# Altium integrated library altera.IntLib: 68 symbols (part 5 of 6)
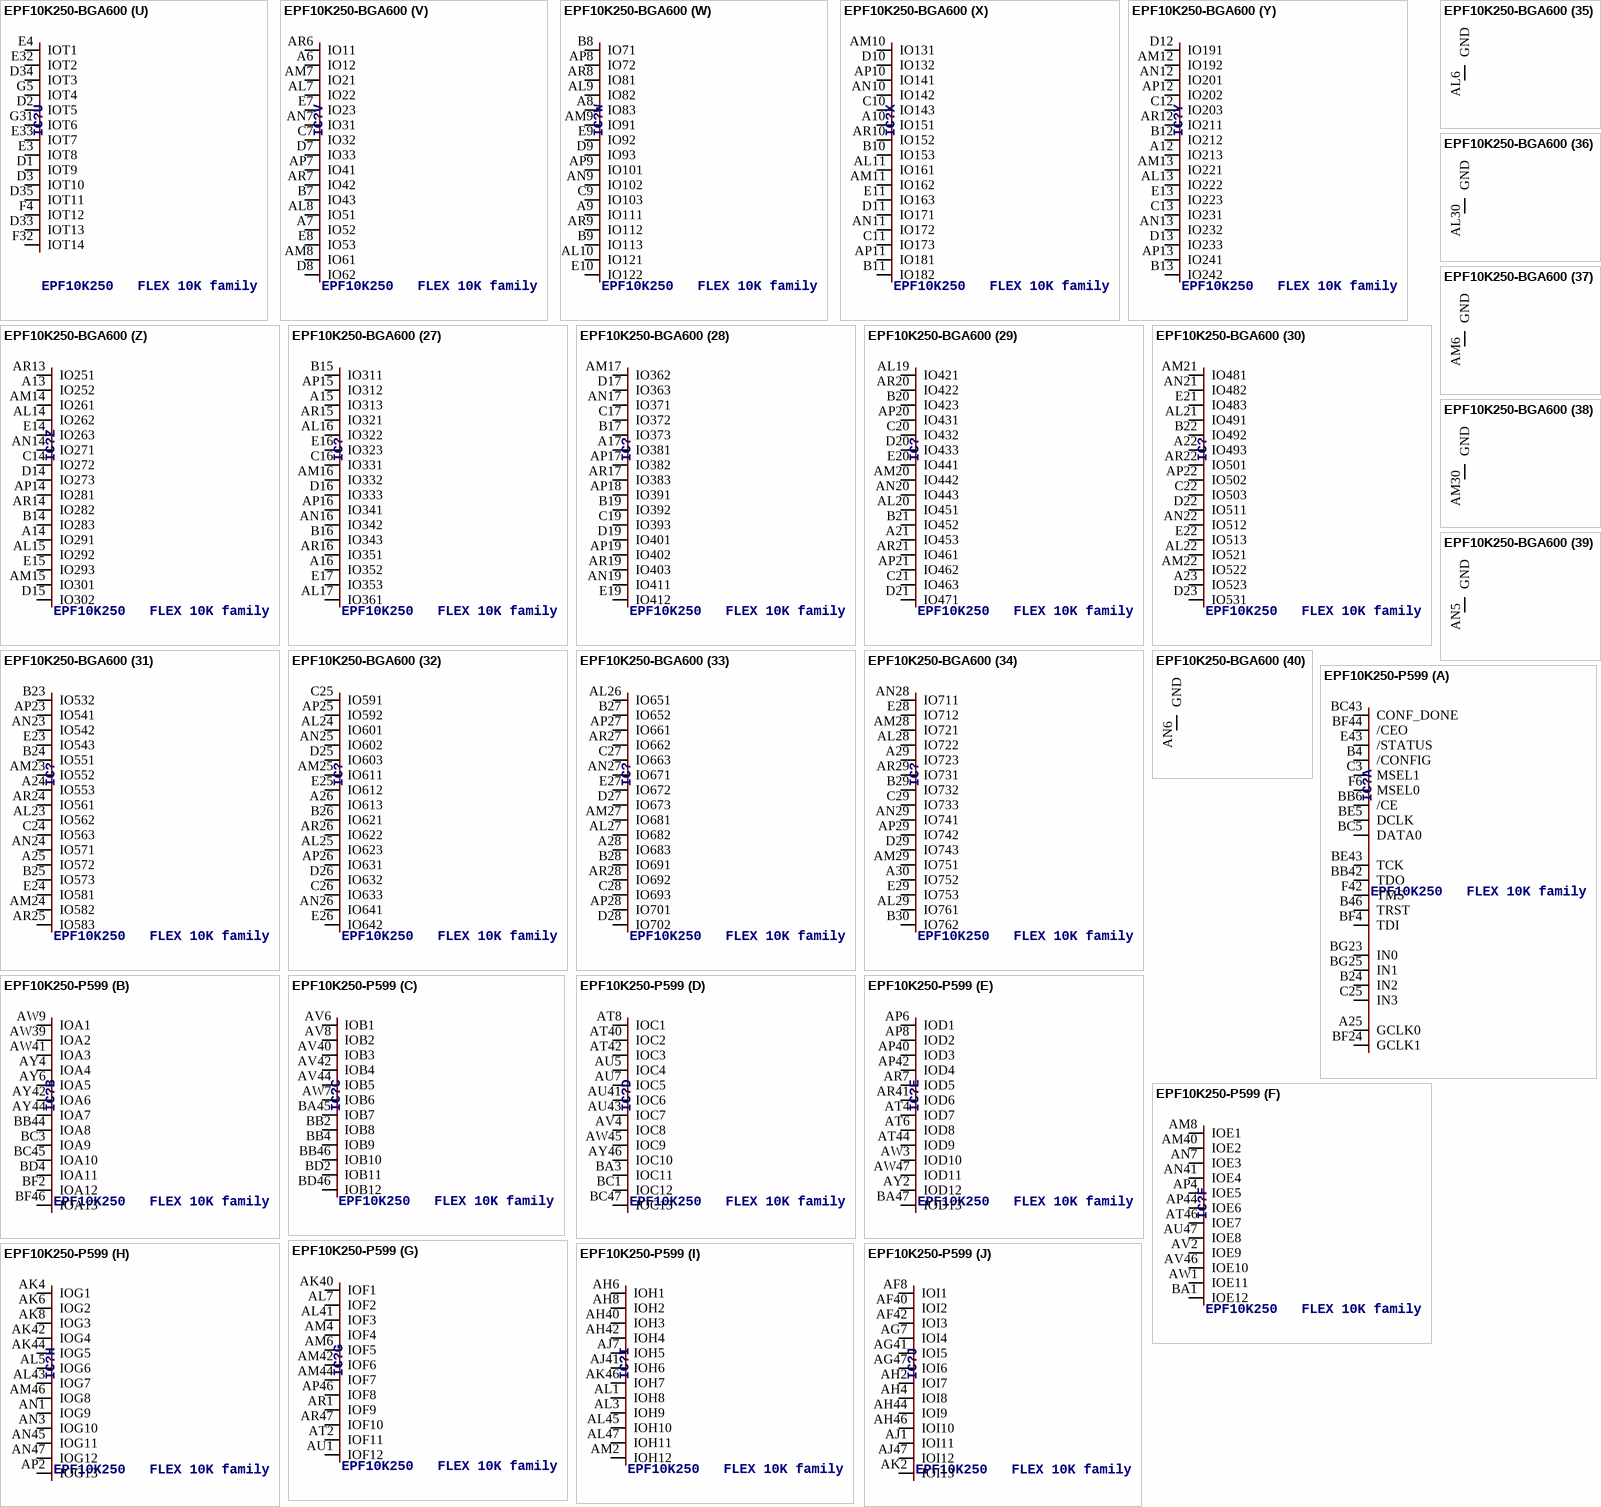
[diagram p61: symbols EPF10K250-BGA600 to EPF10K250-P599]

## EPF10K250-BGA600
designator IC?, comment EPF10K250   FLEX 10K family
OC_FARNELL: unknown; OC_NEWARK: unknown
footprint BGA600
part A pins: AL18 GCLK1, AL31 TCK, AM4 DATA0, AM18 IN1, AM32 CONF_DONE, AN1 TDI, AN2 /CE, AN18 IN0, AN34 TDO, AP1 DCLK, AP35 /CEO, C1 MSEL1, C18 IN2, C34 TRST, C35 TMS, D4 /CONFIG, D18 IN3, D32 /STATUS, E18 GCLK0, F5 MSEL0
part B pins: AJ5 IOA9, AJ31 IOA7, AK5 IOA1, AK32 IOA8, AL4 IOA11, AL32 IOA2, AL33 IOA3, AM1 IOA4, AM2 IOA12, AM3 IOA5, AM33 IOA13, AM34 IOA6, AM35 IOA10
part C pins: AH5 IOB8, AH31 IOB7, AJ4 IOB1, AJ32 IOB4, AK3 IOB11, AK4 IOB9, AK33 IOB10, AK34 IOB5, AL1 IOB2, AL2 IOB6, AL34 IOB12, AL35 IOB3
part D pins: AG31 IOC10, AH4 IOC12, AH32 IOC7, AH33 IOC3, AH34 IOC9, AJ1 IOC4, AJ2 IOC1, AJ3 IOC5, AJ33 IOC2, AJ34 IOC6, AJ35 IOC13, AK1 IOC11, AK2 IOC8
part E pins: AF5 IOD1, AF31 IOD4, AG2 IOD2, AG3 IOD5, AG4 IOD10, AG32 IOD3, AG33 IOD6, AG34 IOD13, AG35 IOD11, AH1 IOD7, AH2 IOD12, AH3 IOD8, AH35 IOD9
part F pins: AE5 IOE1, AE31 IOE8, AE32 IOE2, AE33 IOE7, AF1 IOE9, AF2 IOE3, AF3 IOE11, AF4 IOE5, AF33 IOE6, AF34 IOE10, AF35 IOE4, AG1 IOE12
part G pins: AD3 IOF2, AD4 IOF9, AD5 IOF4, AD31 IOF7, AD32 IOF8, AD33 IOF3, AD34 IOF1, AE1 IOF11, AE2 IOF5, AE3 IOF12, AE34 IOF6, AE35 IOF10
part H pins: AB31 IOG8, AC1 IOG9, AC2 IOG1, AC3 IOG10, AC4 IOG2, AC5 IOG3, AC31 IOG7, AC32 IOG11, AC33 IOG4, AC34 IOG12, AC35 IOG5, AD1 IOG6, AD2 IOG13
part I pins: AA4 IOH8, AA5 IOH1, AA31 IOH4, AA32 IOH7, AB1 IOH9, AB2 IOH2, AB3 IOH12, AB4 IOH5, AB32 IOH6, AB33 IOH10, AB34 IOH3, AB35 IOH11
part J pins: AA1 IOI8, AA2 IOI13, AA3 IOI4, AA34 IOI5, AA35 IOI12, Y3 IOI7, Y4 IOI1, Y5 IOI11, Y31 IOI9, Y32 IOI10, Y33 IOI2, Y34 IOI6, Y35 IOI3
part K pins: V5 IOJ2, V31 IOJ5, W1 IOJ1, W2 IOJ3, W3 IOJ8, W4 IOJ9, W5 IOJ13, W31 IOJ12, W32 IOJ11, W33 IOJ6, W34 IOJ4, W35 IOJ7, Y1 IOJ10
part L pins: U4 IOK3, U5 IOK1, U31 IOK5, U32 IOK7, U33 IOK4, V1 IOK2, V2 IOK8, V3 IOK9, V4 IOK12, V33 IOK11, V34 IOK10, V35 IOK6
part M pins: T2 IOL5, T3 IOL1, T4 IOL6, T5 IOL3, T31 IOL2, T32 IOL7, T33 IOL12, T34 IOL8, U1 IOL4, U2 IOL11, U34 IOL10, U35 IOL9
part N pins: P31 IOM12, P32 IOM3, R1 IOM11, R2 IOM5, R3 IOM10, R4 IOM7, R5 IOM1, R31 IOM8, R32 IOM2, R33 IOM6, R34 IOM13, R35 IOM4, T1 IOM9
part O pins: N3 ION7, N4 ION6, N5 ION2, N31 ION8, N32 ION9, N33 ION1, P1 ION10, P2 ION5, P3 ION12, P4 ION4, P33 ION13, P34 ION3, P35 ION11
part P pins: L35 IOO7, M1 IOO8, M3 IOO2, M4 IOO9, M5 IOO5, M31 IOO11, M32 IOO3, M33 IOO10, M34 IOO1, M35 IOO6, N1 IOO4, N2 IOO12, N35 IOO13
part Q pins: K1 IOP2, K2 IOP8, K33 IOP7, K34 IOP9, K35 IOP1, L1 IOP10, L2 IOP6, L3 IOP11, L4 IOP12, L5 IOP4, L31 IOP3, L32 IOP13, L33 IOP14, L34 IOP5
part R pins: H34 IOQ7, H35 IOQ1, J1 IOQ12, J2 IOQ2, J3 IOQ8, J4 IOQ3, J32 IOQ9, J33 IOQ4, J34 IOQ13, J35 IOQ14, K3 IOQ6, K4 IOQ10, K5 IOQ11, K31 IOQ5
part S pins: G1 IOR5, G2 IOR10, G33 IOR6, G34 IOR4, G35 IOR7, H2 IOR8, H3 IOR3, H4 IOR1, H32 IOR11, H33 IOR2, J5 IOR9, J31 IOR12
part T pins: E1 IOS9, E34 IOS10, E35 IOS2, F1 IOS6, F2 IOS7, F3 IOS1, F33 IOS11, F34 IOS5, G3 IOS13, G4 IOS8, G32 IOS3, H5 IOS4, H31 IOS12
part U pins: D1 IOT9, D2 IOT5, D3 IOT10, D33 IOT13, D34 IOT3, D35 IOT11, E3 IOT8, E4 IOT1, E32 IOT2, E33 IOT7, F4 IOT12, F32 IOT14, G5 IOT4, G31 IOT6
part V pins: A6 IO12, A7 IO52, AL7 IO22, AL8 IO51, AM7 IO21, AM8 IO61, AN7 IO31, AP7 IO41, AR6 IO11, AR7 IO42, B7 IO43, C7 IO32, D7 IO33, D8 IO62, E7 IO23, E8 IO53
part W pins: A8 IO83, A9 IO111, AL9 IO82, AL10 IO121, AM9 IO91, AN9 IO102, AP8 IO72, AP9 IO101, AR8 IO81, AR9 IO112, B8 IO71, B9 IO113, C9 IO103, D9 IO93, E9 IO92, E10 IO122
part X pins: A10 IO151, AL11 IO161, AM10 IO131, AM11 IO162, AN10 IO142, AN11 IO172, AP10 IO141, AP11 IO181, AR10 IO152, B10 IO153, B11 IO182, C10 IO143, C11 IO173, D10 IO132, D11 IO171, E11 IO163
part Y pins: A12 IO213, AL13 IO222, AM12 IO192, AM13 IO221, AN12 IO201, AN13 IO232, AP12 IO202, AP13 IO241, AR12 IO211, B12 IO212, B13 IO242, C12 IO203, C13 IO231, D12 IO191, D13 IO233, E13 IO223
part Z pins: A13 IO252, A14 IO291, AL14 IO262, AL15 IO292, AM14 IO261, AM15 IO301, AN14 IO271, AP14 IO281, AR13 IO251, AR14 IO282, B14 IO283, C14 IO272, D14 IO273, D15 IO302, E14 IO263, E15 IO293
part 27 pins: A15 IO313, A16 IO352, AL16 IO322, AL17 IO361, AM16 IO332, AN16 IO342, AP15 IO312, AP16 IO341, AR15 IO321, AR16 IO351, B15 IO311, B16 IO343, C16 IO331, D16 IO333, E16 IO323, E17 IO353
part 28 pins: A17 IO381, AM17 IO362, AN17 IO371, AN19 IO411, AP17 IO382, AP18 IO391, AP19 IO402, AR17 IO383, AR19 IO403, B17 IO373, B19 IO392, C17 IO372, C19 IO393, D17 IO363, D19 IO401, E19 IO412
part 29 pins: A21 IO453, AL19 IO421, AL20 IO451, AM20 IO442, AN20 IO443, AP20 IO431, AP21 IO462, AR20 IO422, AR21 IO461, B20 IO423, B21 IO452, C20 IO432, C21 IO463, D20 IO433, D21 IO471, E20 IO441
part 30 pins: A22 IO493, A23 IO523, AL21 IO491, AL22 IO521, AM21 IO481, AM22 IO522, AN21 IO482, AN22 IO512, AP22 IO502, AR22 IO501, B22 IO492, C22 IO503, D22 IO511, D23 IO531, E21 IO483, E22 IO513
part 31 pins: A24 IO553, A25 IO572, AL23 IO562, AM23 IO552, AM24 IO582, AN23 IO542, AN24 IO571, AP23 IO541, AR24 IO561, AR25 IO583, B23 IO532, B24 IO551, B25 IO573, C24 IO563, E23 IO543, E24 IO581
part 32 pins: A26 IO613, AL24 IO601, AL25 IO623, AM25 IO611, AN25 IO602, AN26 IO641, AP25 IO592, AP26 IO631, AR26 IO622, B26 IO621, C25 IO591, C26 IO633, D25 IO603, D26 IO632, E25 IO612, E26 IO642
part 33 pins: A28 IO683, AL26 IO651, AL27 IO682, AM27 IO681, AN27 IO671, AP27 IO661, AP28 IO701, AR27 IO662, AR28 IO692, B27 IO652, B28 IO691, C27 IO663, C28 IO693, D27 IO673, D28 IO702, E27 IO672
part 34 pins: A29 IO723, A30 IO752, AL28 IO722, AL29 IO761, AM28 IO721, AM29 IO751, AN28 IO711, AN29 IO741, AP29 IO742, AR29 IO731, B29 IO732, B30 IO762, C29 IO733, D29 IO743, E28 IO712, E29 IO753
part 35 pins: AL6 GND (power)
part 36 pins: AL30 GND (power)
part 37 pins: AM6 GND (power)
part 38 pins: AM30 GND (power)
part 39 pins: AN5 GND (power)
part 40 pins: AN6 GND (power)
part 41 pins: AN30 GND (power)
part 42 pins: AN31 GND (power)
part 43 pins: AN35 GND (power)
part 44 pins: AP2 GND (power)
part 45 pins: AP3 GND (power)
part 46 pins: AP4 GND (power)
part 47 pins: AP5 GND (power)
part 48 pins: AP6 GND (power)
part 49 pins: AP30 GND (power)
part 50 pins: AP31 GND (power)
part 51 pins: AP32 GND (power)
part 52 pins: AP33 GND (power)
part 53 pins: AR1 GND (power)
part 54 pins: AR2 GND (power)
part 55 pins: AR3 GND (power)
part 56 pins: AR4 GND (power)
part 57 pins: AR5 GND (power)
part 58 pins: AR30 GND (power)
part 59 pins: AR31 GND (power)
part 60 pins: AR32 GND (power)
part 61 pins: AR33 GND (power)
part 62 pins: AR34 GND (power)
part 63 pins: AR35 GND (power)
part 64 pins: A1 GND (power)
part 65 pins: A2 GND (power)
part 66 pins: A3 GND (power)
part 67 pins: A4 GND (power)
part 68 pins: A5 GND (power)
part 69 pins: A18 GND (power)
part 70 pins: A31 GND (power)
part 71 pins: A32 GND (power)
part 72 pins: A33 GND (power)
part 73 pins: A34 GND (power)
part 74 pins: A35 GND (power)
part 75 pins: B2 GND (power)
part 76 pins: B3 GND (power)
part 77 pins: B4 GND (power)
part 78 pins: B5 GND (power)
part 79 pins: B6 GND (power)
part 80 pins: B31 GND (power)
part 81 pins: B32 GND (power)
part 82 pins: B33 GND (power)
part 83 pins: B34 GND (power)
part 84 pins: B35 GND (power)
part 85 pins: C5 GND (power)
part 86 pins: C6 GND (power)
part 87 pins: C30 GND (power)
part 88 pins: C31 GND (power)
part 89 pins: D6 GND (power)
part 90 pins: D30 GND (power)
part 91 pins: E6 GND (power)
part 92 pins: E30 GND (power)
part 93 pins: AA33 VCC (power)
part 94 pins: AB5 VCC (power)
part 95 pins: AD35 VCC (power)
part 96 pins: AE4 VCC (power)
part 97 pins: AF32 VCC (power)
part 98 pins: AG5 VCC (power)
part 99 pins: AK31 VCC (power)
part 100 pins: AK35 VCC (power)
part 101 pins: AL3 VCC (power)
part 102 pins: AP24 VCC (power)
part 103 pins: AR11 VCC (power)
part 104 pins: AR18 VCC (power)
part 105 pins: A11 VCC (power)
part 106 pins: A19 VCC (power)
part 107 pins: B1 VCC (power)
part 108 pins: B18 VCC (power)
part 109 pins: D24 VCC (power)
part 110 pins: E2 VCC (power)
part 111 pins: F31 VCC (power)
part 112 pins: F35 VCC (power)
part 113 pins: H1 VCC (power)
part 114 pins: K32 VCC (power)
part 115 pins: M2 VCC (power)
part 116 pins: N34 VCC (power)
part 117 pins: P5 VCC (power)
part 118 pins: T35 VCC (power)
part 119 pins: U3 VCC (power)
part 120 pins: V32 VCC (power)
part 121 pins: Y2 VCC (power)
part 122 pins: AL5 VCCIO (power)
part 123 pins: AL12 VCCIO (power)
part 124 pins: AM5 VCCIO (power)
part 125 pins: AM19 VCCIO (power)
part 126 pins: AM26 VCCIO (power)
part 127 pins: AM31 VCCIO (power)
part 128 pins: AN3 VCCIO (power)
part 129 pins: AN4 VCCIO (power)
part 130 pins: AN8 VCCIO (power)
part 131 pins: AN15 VCCIO (power)
part 132 pins: AN32 VCCIO (power)
part 133 pins: AN33 VCCIO (power)
part 134 pins: AP34 VCCIO (power)
part 135 pins: AR23 VCCIO (power)
part 136 pins: A20 VCCIO (power)
part 137 pins: A27 VCCIO (power)
part 138 pins: C2 VCCIO (power)
part 139 pins: C3 VCCIO (power)
part 140 pins: C4 VCCIO (power)
part 141 pins: C8 VCCIO (power)
part 142 pins: C15 VCCIO (power)
part 143 pins: C23 VCCIO (power)
part 144 pins: C32 VCCIO (power)
part 145 pins: C33 VCCIO (power)
part 146 pins: D5 VCCIO (power)
part 147 pins: D31 VCCIO (power)
part 148 pins: E5 VCCIO (power)
part 149 pins: E12 VCCIO (power)
part 150 pins: E31 VCCIO (power)

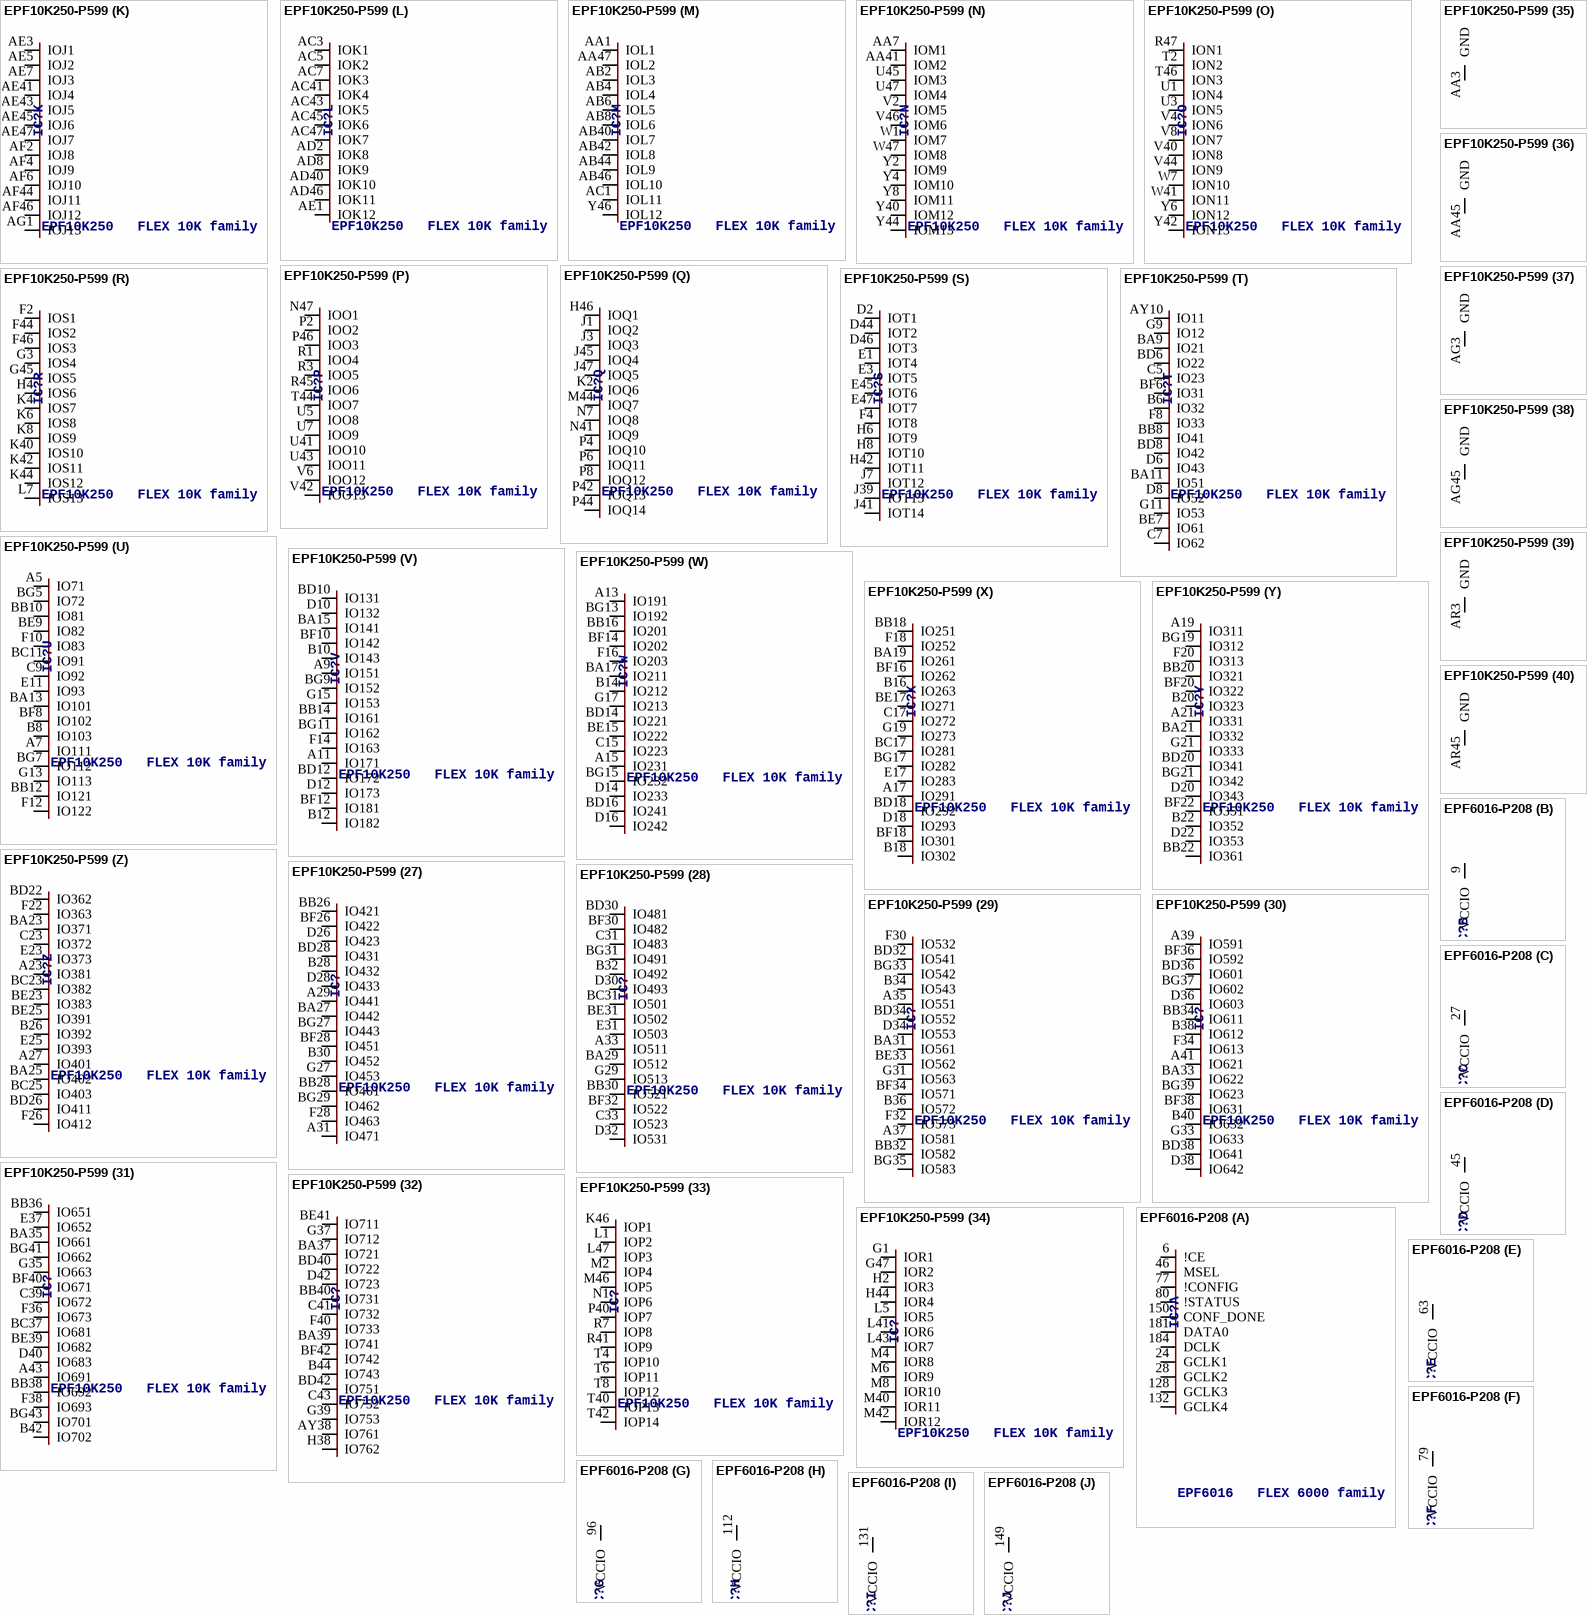
[diagram p37: symbols EPF10K250-P599 to EPF6016-P208]

## EPF10K250-P599
designator IC?, comment EPF10K250   FLEX 10K family
OC_FARNELL: unknown; OC_NEWARK: unknown
footprint PGA599
part A pins: A25 GCLK0, B4 /CONFIG, B24 IN2, B46 TRST, BB6 /CE, BB42 TDO, BC5 DATA0, BC43 CONF_DONE, BE5 DCLK, BE43 TCK, BF4 TDI, BF24 GCLK1, BF44 /CEO, BG23 IN0, BG25 IN1, C3 MSEL1, C25 IN3, E43 /STATUS, F6 MSEL0, F42 TMS
part B pins: AW9 IOA1, AW39 IOA2, AW41 IOA3, AY4 IOA4, AY6 IOA5, AY42 IOA6, AY44 IOA7, BB44 IOA8, BC3 IOA9, BC45 IOA10, BD4 IOA11, BF2 IOA12, BF46 IOA13
part C pins: AV6 IOB1, AV8 IOB2, AV40 IOB3, AV42 IOB4, AV44 IOB5, AW7 IOB6, BA45 IOB7, BB2 IOB8, BB4 IOB9, BB46 IOB10, BD2 IOB11, BD46 IOB12
part D pins: AT8 IOC1, AT40 IOC2, AT42 IOC3, AU5 IOC4, AU7 IOC5, AU41 IOC6, AU43 IOC7, AV4 IOC8, AW45 IOC9, AY46 IOC10, BA3 IOC11, BC1 IOC12, BC47 IOC13
part E pins: AP6 IOD1, AP8 IOD2, AP40 IOD3, AP42 IOD4, AR7 IOD5, AR41 IOD6, AT4 IOD7, AT6 IOD8, AT44 IOD9, AW3 IOD10, AW47 IOD11, AY2 IOD12, BA47 IOD13
part F pins: AM8 IOE1, AM40 IOE2, AN7 IOE3, AN41 IOE4, AP4 IOE5, AP44 IOE6, AT46 IOE7, AU47 IOE8, AV2 IOE9, AV46 IOE10, AW1 IOE11, BA1 IOE12
part G pins: AK40 IOF1, AL7 IOF2, AL41 IOF3, AM4 IOF4, AM6 IOF5, AM42 IOF6, AM44 IOF7, AP46 IOF8, AR1 IOF9, AR47 IOF10, AT2 IOF11, AU1 IOF12
part H pins: AK4 IOG1, AK6 IOG2, AK8 IOG3, AK42 IOG4, AK44 IOG5, AL5 IOG6, AL43 IOG7, AM46 IOG8, AN1 IOG9, AN3 IOG10, AN45 IOG11, AN47 IOG12, AP2 IOG13
part I pins: AH6 IOH1, AH8 IOH2, AH40 IOH3, AH42 IOH4, AJ7 IOH5, AJ41 IOH6, AK46 IOH7, AL1 IOH8, AL3 IOH9, AL45 IOH10, AL47 IOH11, AM2 IOH12
part J pins: AF8 IOI1, AF40 IOI2, AF42 IOI3, AG7 IOI4, AG41 IOI5, AG47 IOI6, AH2 IOI7, AH4 IOI8, AH44 IOI9, AH46 IOI10, AJ1 IOI11, AJ47 IOI12, AK2 IOI13
part K pins: AE3 IOJ1, AE5 IOJ2, AE7 IOJ3, AE41 IOJ4, AE43 IOJ5, AE45 IOJ6, AE47 IOJ7, AF2 IOJ8, AF4 IOJ9, AF6 IOJ10, AF44 IOJ11, AF46 IOJ12, AG1 IOJ13
part L pins: AC3 IOK1, AC5 IOK2, AC7 IOK3, AC41 IOK4, AC43 IOK5, AC45 IOK6, AC47 IOK7, AD2 IOK8, AD8 IOK9, AD40 IOK10, AD46 IOK11, AE1 IOK12
part M pins: AA1 IOL1, AA47 IOL2, AB2 IOL3, AB4 IOL4, AB6 IOL5, AB8 IOL6, AB40 IOL7, AB42 IOL8, AB44 IOL9, AB46 IOL10, AC1 IOL11, Y46 IOL12
part N pins: AA7 IOM1, AA41 IOM2, U45 IOM3, U47 IOM4, V2 IOM5, V46 IOM6, W1 IOM7, W47 IOM8, Y2 IOM9, Y4 IOM10, Y8 IOM11, Y40 IOM12, Y44 IOM13
part O pins: R47 ION1, T2 ION2, T46 ION3, U1 ION4, U3 ION5, V4 ION6, V8 ION7, V40 ION8, V44 ION9, W7 ION10, W41 ION11, Y6 ION12, Y42 ION13
part P pins: N47 IOO1, P2 IOO2, P46 IOO3, R1 IOO4, R3 IOO5, R45 IOO6, T44 IOO7, U5 IOO8, U7 IOO9, U41 IOO10, U43 IOO11, V6 IOO12, V42 IOO13
part Q pins: H46 IOQ1, J1 IOQ2, J3 IOQ3, J45 IOQ4, J47 IOQ5, K2 IOQ6, M44 IOQ7, N7 IOQ8, N41 IOQ9, P4 IOQ10, P6 IOQ11, P8 IOQ12, P42 IOQ13, P44 IOQ14
part R pins: F2 IOS1, F44 IOS2, F46 IOS3, G3 IOS4, G45 IOS5, H4 IOS6, K4 IOS7, K6 IOS8, K8 IOS9, K40 IOS10, K42 IOS11, K44 IOS12, L7 IOS13
part S pins: D2 IOT1, D44 IOT2, D46 IOT3, E1 IOT4, E3 IOT5, E45 IOT6, E47 IOT7, F4 IOT8, H6 IOT9, H8 IOT10, H42 IOT11, J7 IOT12, J39 IOT13, J41 IOT14
part T pins: AY10 IO11, B6 IO32, BA9 IO21, BA11 IO51, BB8 IO41, BD6 IO22, BD8 IO42, BE7 IO61, BF6 IO31, C5 IO23, C7 IO62, D6 IO43, D8 IO52, F8 IO33, G9 IO12, G11 IO53
part U pins: A5 IO71, A7 IO111, B8 IO103, BA13 IO101, BB10 IO81, BB12 IO121, BC11 IO91, BE9 IO82, BF8 IO102, BG5 IO72, BG7 IO112, C9 IO92, E11 IO93, F10 IO83, F12 IO122, G13 IO113
part V pins: A9 IO151, A11 IO171, B10 IO143, B12 IO182, BA15 IO141, BB14 IO161, BD10 IO131, BD12 IO172, BF10 IO142, BF12 IO181, BG9 IO152, BG11 IO162, D10 IO132, D12 IO173, F14 IO163, G15 IO153
part W pins: A13 IO191, A15 IO231, B14 IO212, BA17 IO211, BB16 IO201, BD14 IO221, BD16 IO241, BE15 IO222, BF14 IO202, BG13 IO192, BG15 IO232, C15 IO223, D14 IO233, D16 IO242, F16 IO203, G17 IO213
part X pins: A17 IO291, B16 IO263, B18 IO302, BA19 IO261, BB18 IO251, BC17 IO281, BD18 IO292, BE17 IO271, BF16 IO262, BF18 IO301, BG17 IO282, C17 IO272, D18 IO293, E17 IO283, F18 IO252, G19 IO273
part Y pins: A19 IO311, A21 IO331, B20 IO323, B22 IO352, BA21 IO332, BB20 IO321, BB22 IO361, BD20 IO341, BF20 IO322, BF22 IO351, BG19 IO312, BG21 IO342, D20 IO343, D22 IO353, F20 IO313, G21 IO333
part Z pins: A23 IO381, A27 IO401, B26 IO392, BA23 IO371, BA25 IO402, BC23 IO382, BC25 IO403, BD22 IO362, BD26 IO411, BE23 IO383, BE25 IO391, C23 IO372, E23 IO373, E25 IO393, F22 IO363, F26 IO412
part 27 pins: A29 IO441, A31 IO471, B28 IO432, B30 IO452, BA27 IO442, BB26 IO421, BB28 IO461, BD28 IO431, BF26 IO422, BF28 IO451, BG27 IO443, BG29 IO462, D26 IO423, D28 IO433, F28 IO463, G27 IO453
part 28 pins: A33 IO511, B32 IO492, BA29 IO512, BB30 IO521, BC31 IO501, BD30 IO481, BE31 IO502, BF30 IO482, BF32 IO522, BG31 IO491, C31 IO483, C33 IO523, D30 IO493, D32 IO531, E31 IO503, G29 IO513
part 29 pins: A35 IO551, A37 IO581, B34 IO543, B36 IO572, BA31 IO561, BB32 IO582, BD32 IO541, BD34 IO552, BE33 IO562, BF34 IO571, BG33 IO542, BG35 IO583, D34 IO553, F30 IO532, F32 IO573, G31 IO563
part 30 pins: A39 IO591, A41 IO621, B38 IO612, B40 IO632, BA33 IO622, BB34 IO611, BD36 IO601, BD38 IO641, BF36 IO592, BF38 IO631, BG37 IO602, BG39 IO623, D36 IO603, D38 IO642, F34 IO613, G33 IO633
part 31 pins: A43 IO691, B42 IO702, BA35 IO661, BB36 IO651, BB38 IO692, BC37 IO681, BE39 IO682, BF40 IO671, BG41 IO662, BG43 IO701, C39 IO672, D40 IO683, E37 IO652, F36 IO673, F38 IO693, G35 IO663
part 32 pins: AY38 IO761, B44 IO743, BA37 IO721, BA39 IO741, BB40 IO731, BD40 IO722, BD42 IO751, BE41 IO711, BF42 IO742, C41 IO732, C43 IO752, D42 IO723, F40 IO733, G37 IO712, G39 IO753, H38 IO762
part 33 pins: K46 IOP1, L1 IOP2, L47 IOP3, M2 IOP4, M46 IOP5, N1 IOP6, P40 IOP7, R7 IOP8, R41 IOP9, T4 IOP10, T6 IOP11, T8 IOP12, T40 IOP13, T42 IOP14
part 34 pins: G1 IOR1, G47 IOR2, H2 IOR3, H44 IOR4, L5 IOR5, L41 IOR6, L43 IOR7, M4 IOR8, M6 IOR9, M8 IOR10, M40 IOR11, M42 IOR12
part 35 pins: AA3 GND (power)
part 36 pins: AA45 GND (power)
part 37 pins: AG3 GND (power)
part 38 pins: AG45 GND (power)
part 39 pins: AR3 GND (power)
part 40 pins: AR45 GND (power)
part 41 pins: A47 GND (power)
part 42 pins: BD44 GND (power)
part 43 pins: BE3 GND (power)
part 44 pins: BE13 GND (power)
part 45 pins: BE21 GND (power)
part 46 pins: BE27 GND (power)
part 47 pins: BE35 GND (power)
part 48 pins: BE45 GND (power)
part 49 pins: BG1 GND (power)
part 50 pins: BG47 GND (power)
part 51 pins: B2 GND (power)
part 52 pins: C13 GND (power)
part 53 pins: C21 GND (power)
part 54 pins: C27 GND (power)
part 55 pins: C35 GND (power)
part 56 pins: C45 GND (power)
part 57 pins: D4 GND (power)
part 58 pins: G23 GND (power)
part 59 pins: N3 GND (power)
part 60 pins: N45 GND (power)
part 61 pins: AD6 GNDIO (power)
part 62 pins: AD42 GNDIO (power)
part 63 pins: AJ5 GNDIO (power)
part 64 pins: AJ43 GNDIO (power)
part 65 pins: AR5 GNDIO (power)
part 66 pins: AR43 GNDIO (power)
part 67 pins: AY8 GNDIO (power)
part 68 pins: AY40 GNDIO (power)
part 69 pins: BA5 GNDIO (power)
part 70 pins: BA43 GNDIO (power)
part 71 pins: BB24 GNDIO (power)
part 72 pins: BC7 GNDIO (power)
part 73 pins: BC13 GNDIO (power)
part 74 pins: BC19 GNDIO (power)
part 75 pins: BC29 GNDIO (power)
part 76 pins: BC35 GNDIO (power)
part 77 pins: BC41 GNDIO (power)
part 78 pins: E7 GNDIO (power)
part 79 pins: E13 GNDIO (power)
part 80 pins: E19 GNDIO (power)
part 81 pins: E29 GNDIO (power)
part 82 pins: E35 GNDIO (power)
part 83 pins: E41 GNDIO (power)
part 84 pins: F24 GNDIO (power)
part 85 pins: G5 GNDIO (power)
part 86 pins: G43 GNDIO (power)
part 87 pins: H40 GNDIO (power)
part 88 pins: N5 GNDIO (power)
part 89 pins: N43 GNDIO (power)
part 90 pins: W5 GNDIO (power)
part 91 pins: W43 GNDIO (power)
part 92 pins: AJ3 VCC (power)
part 93 pins: AJ45 VCC (power)
part 94 pins: AU3 VCC (power)
part 95 pins: AU45 VCC (power)
part 96 pins: A3 VCC (power)
part 97 pins: A45 VCC (power)
part 98 pins: BE1 VCC (power)
part 99 pins: BE11 VCC (power)
part 100 pins: BE19 VCC (power)
part 101 pins: BE29 VCC (power)
part 102 pins: BE37 VCC (power)
part 103 pins: BE47 VCC (power)
part 104 pins: BG3 VCC (power)
part 105 pins: BG45 VCC (power)
part 106 pins: C1 VCC (power)
part 107 pins: C11 VCC (power)
part 108 pins: C19 VCC (power)
part 109 pins: C29 VCC (power)
part 110 pins: C37 VCC (power)
part 111 pins: C47 VCC (power)
part 112 pins: E5 VCC (power)
part 113 pins: G25 VCC (power)
part 114 pins: L3 VCC (power)
part 115 pins: L45 VCC (power)
part 116 pins: W3 VCC (power)
part 117 pins: W45 VCC (power)
part 118 pins: AA5 VCCIO (power)
part 119 pins: AA43 VCCIO (power)
part 120 pins: AD4 VCCIO (power)
part 121 pins: AD44 VCCIO (power)
part 122 pins: AG5 VCCIO (power)
part 123 pins: AG43 VCCIO (power)
part 124 pins: AN5 VCCIO (power)
part 125 pins: AN43 VCCIO (power)
part 126 pins: AW5 VCCIO (power)
part 127 pins: AW43 VCCIO (power)
part 128 pins: BA7 VCCIO (power)
part 129 pins: BA41 VCCIO (power)
part 130 pins: BC9 VCCIO (power)
part 131 pins: BC15 VCCIO (power)
part 132 pins: BC21 VCCIO (power)
part 133 pins: BC27 VCCIO (power)
part 134 pins: BC33 VCCIO (power)
part 135 pins: BC39 VCCIO (power)
part 136 pins: BD24 VCCIO (power)
part 137 pins: D24 VCCIO (power)
part 138 pins: E9 VCCIO (power)
part 139 pins: E15 VCCIO (power)
part 140 pins: E21 VCCIO (power)
part 141 pins: E27 VCCIO (power)
part 142 pins: E33 VCCIO (power)
part 143 pins: E39 VCCIO (power)
part 144 pins: G7 VCCIO (power)
part 145 pins: G41 VCCIO (power)
part 146 pins: J5 VCCIO (power)
part 147 pins: J43 VCCIO (power)
part 148 pins: R5 VCCIO (power)
part 149 pins: R43 VCCIO (power)

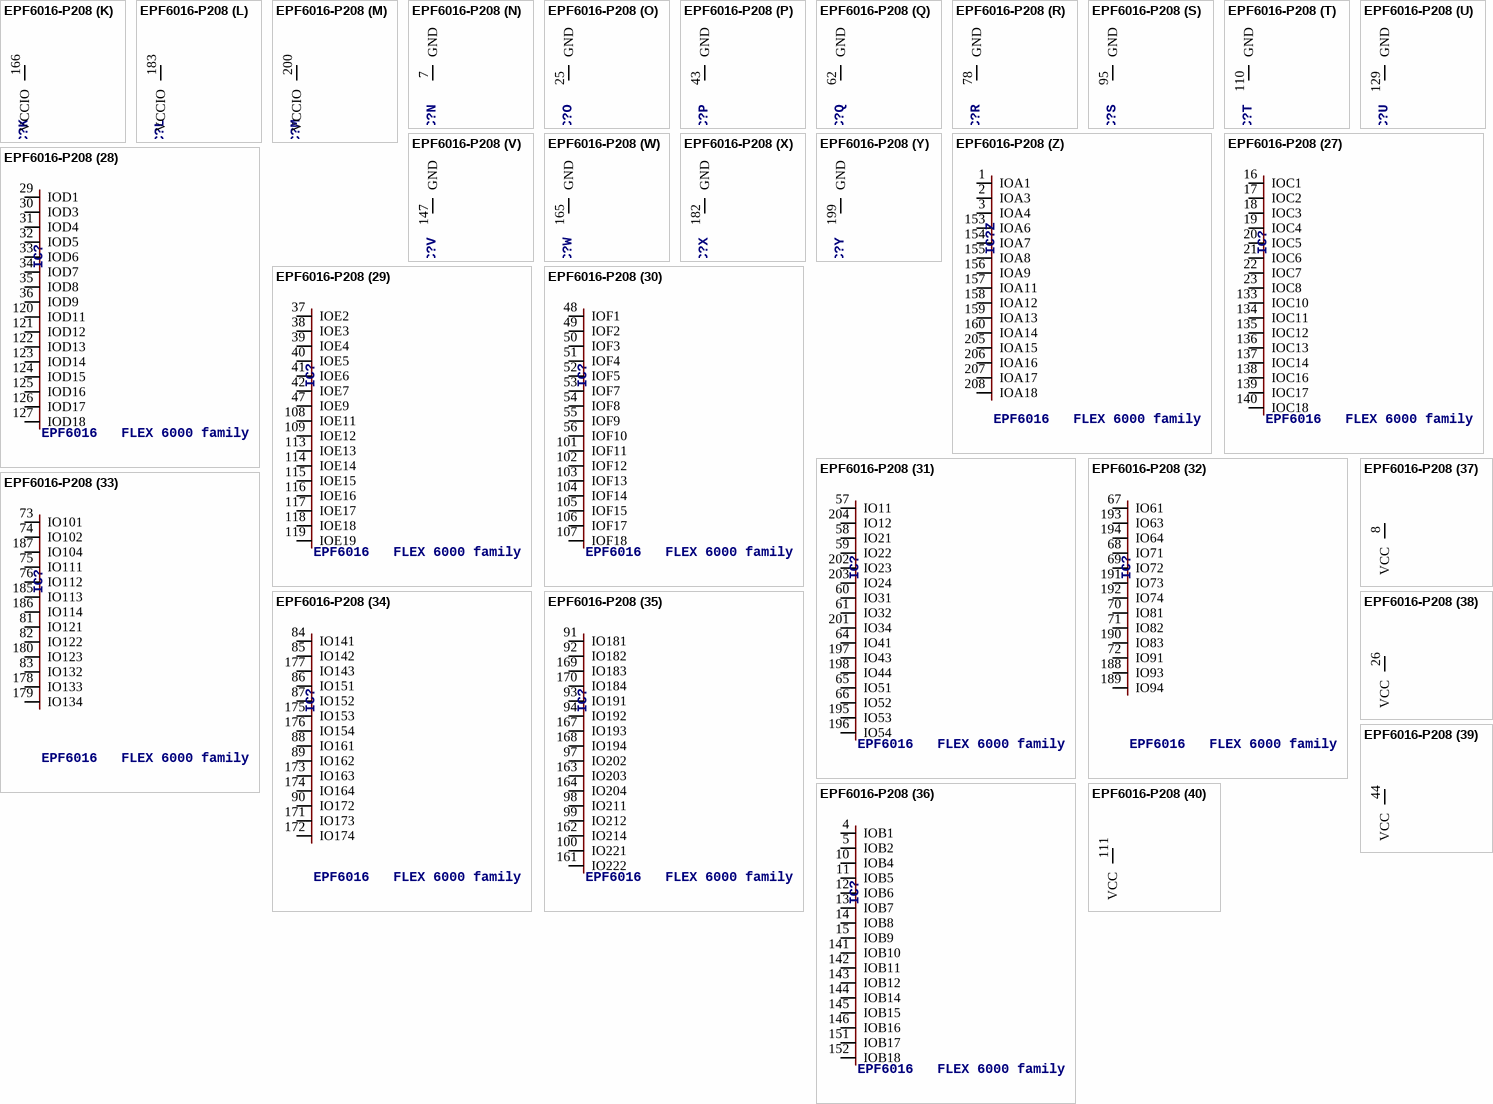
[diagram p38: symbol EPF6016-P208]

## EPF6016-P208
designator IC?, comment EPF6016   FLEX 6000 family
MPN: EPF6016AQC208-3N; OC_FARNELL: 1549398; OC_NEWARK: 51R9156
footprint PQFP208
part A pins: 6 !CE, 24 GCLK1, 28 GCLK2, 46 MSEL, 77 !CONFIG, 80 !STATUS, 128 GCLK3, 132 GCLK4, 150 CONF_DONE, 181 DATA0, 184 DCLK
part B pins: 9 VCCIO (power)
part C pins: 27 VCCIO (power)
part D pins: 45 VCCIO (power)
part E pins: 63 VCCIO (power)
part F pins: 79 VCCIO (power)
part G pins: 96 VCCIO (power)
part H pins: 112 VCCIO (power)
part I pins: 131 VCCIO (power)
part J pins: 149 VCCIO (power)
part K pins: 166 VCCIO (power)
part L pins: 183 VCCIO (power)
part M pins: 200 VCCIO (power)
part N pins: 7 GND (power)
part O pins: 25 GND (power)
part P pins: 43 GND (power)
part Q pins: 62 GND (power)
part R pins: 78 GND (power)
part S pins: 95 GND (power)
part T pins: 110 GND (power)
part U pins: 129 GND (power)
part V pins: 147 GND (power)
part W pins: 165 GND (power)
part X pins: 182 GND (power)
part Y pins: 199 GND (power)
part Z pins: 1 IOA1, 2 IOA3, 3 IOA4, 153 IOA6, 154 IOA7, 155 IOA8, 156 IOA9, 157 IOA11, 158 IOA12, 159 IOA13, 160 IOA14, 205 IOA15, 206 IOA16, 207 IOA17, 208 IOA18
part 27 pins: 16 IOC1, 17 IOC2, 18 IOC3, 19 IOC4, 20 IOC5, 21 IOC6, 22 IOC7, 23 IOC8, 133 IOC10, 134 IOC11, 135 IOC12, 136 IOC13, 137 IOC14, 138 IOC16, 139 IOC17, 140 IOC18
part 28 pins: 29 IOD1, 30 IOD3, 31 IOD4, 32 IOD5, 33 IOD6, 34 IOD7, 35 IOD8, 36 IOD9, 120 IOD11, 121 IOD12, 122 IOD13, 123 IOD14, 124 IOD15, 125 IOD16, 126 IOD17, 127 IOD18
part 29 pins: 37 IOE2, 38 IOE3, 39 IOE4, 40 IOE5, 41 IOE6, 42 IOE7, 47 IOE9, 108 IOE11, 109 IOE12, 113 IOE13, 114 IOE14, 115 IOE15, 116 IOE16, 117 IOE17, 118 IOE18, 119 IOE19
part 30 pins: 48 IOF1, 49 IOF2, 50 IOF3, 51 IOF4, 52 IOF5, 53 IOF7, 54 IOF8, 55 IOF9, 56 IOF10, 101 IOF11, 102 IOF12, 103 IOF13, 104 IOF14, 105 IOF15, 106 IOF17, 107 IOF18
part 31 pins: 57 IO11, 58 IO21, 59 IO22, 60 IO31, 61 IO32, 64 IO41, 65 IO51, 66 IO52, 195 IO53, 196 IO54, 197 IO43, 198 IO44, 201 IO34, 202 IO23, 203 IO24, 204 IO12
part 32 pins: 67 IO61, 68 IO71, 69 IO72, 70 IO81, 71 IO82, 72 IO91, 188 IO93, 189 IO94, 190 IO83, 191 IO73, 192 IO74, 193 IO63, 194 IO64
part 33 pins: 73 IO101, 74 IO102, 75 IO111, 76 IO112, 81 IO121, 82 IO122, 83 IO132, 178 IO133, 179 IO134, 180 IO123, 185 IO113, 186 IO114, 187 IO104
part 34 pins: 84 IO141, 85 IO142, 86 IO151, 87 IO152, 88 IO161, 89 IO162, 90 IO172, 171 IO173, 172 IO174, 173 IO163, 174 IO164, 175 IO153, 176 IO154, 177 IO143
part 35 pins: 91 IO181, 92 IO182, 93 IO191, 94 IO192, 97 IO202, 98 IO211, 99 IO212, 100 IO221, 161 IO222, 162 IO214, 163 IO203, 164 IO204, 167 IO193, 168 IO194, 169 IO183, 170 IO184
part 36 pins: 4 IOB1, 5 IOB2, 10 IOB4, 11 IOB5, 12 IOB6, 13 IOB7, 14 IOB8, 15 IOB9, 141 IOB10, 142 IOB11, 143 IOB12, 144 IOB14, 145 IOB15, 146 IOB16, 151 IOB17, 152 IOB18
part 37 pins: 8 VCC (power)
part 38 pins: 26 VCC (power)
part 39 pins: 44 VCC (power)
part 40 pins: 111 VCC (power)
part 41 pins: 130 VCC (power)
part 42 pins: 148 VCC (power)

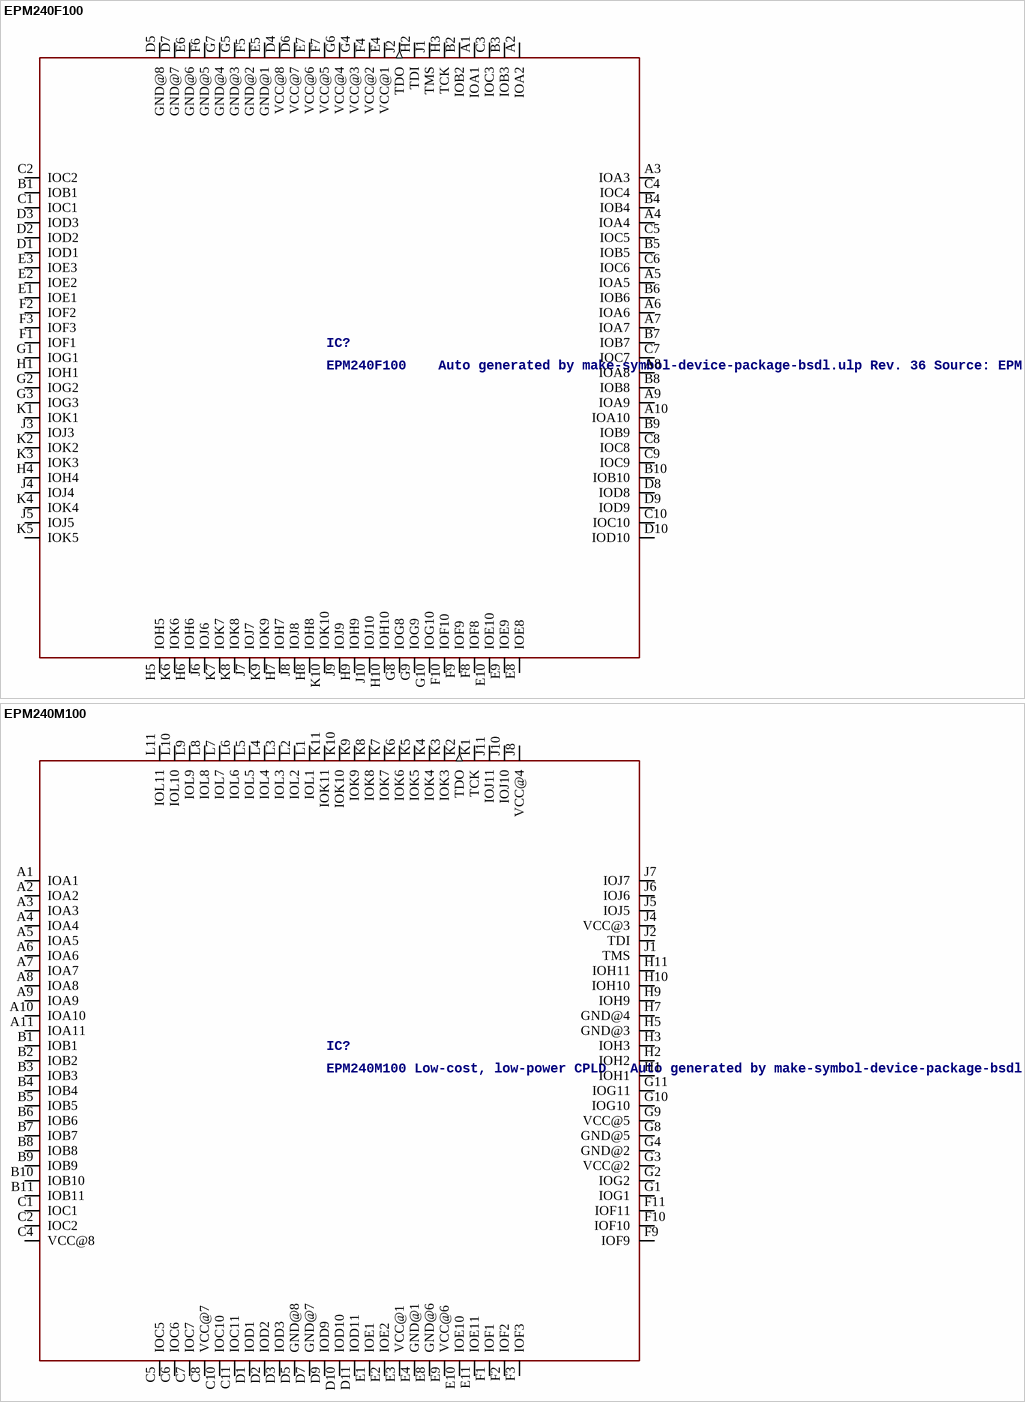
[diagram p39: symbols EPM240F100 to EPM240M100]

## EPM240F100
designator IC?, comment EPM240F100    Auto generated by make-symbol-device-package-bsdl.ulp Rev. 36 Source: EPM240F100.BSD
MPN: SA800-B293; OC_FARNELL: 1635094; OC_NEWARK: 74R0178
footprint FBGA100
pins: A1 IOA1, A2 IOA2, A3 IOA3, A4 IOA4, A5 IOA5, A6 IOA6, A7 IOA7, A8 IOA8, A9 IOA9, A10 IOA10, B1 IOB1, B2 IOB2, B3 IOB3, B4 IOB4, B5 IOB5, B6 IOB6, B7 IOB7, B8 IOB8, B9 IOB9, B10 IOB10, C1 IOC1, C2 IOC2, C3 IOC3, C4 IOC4, C5 IOC5, C6 IOC6, C7 IOC7, C8 IOC8, C9 IOC9, C10 IOC10, D1 IOD1, D2 IOD2, D3 IOD3, D4 VCC@8 (power), D5 GND@8 (power), D6 VCC@7 (power), D7 GND@7 (power), D8 IOD8, D9 IOD9, D10 IOD10, E1 IOE1, E2 IOE2, E3 IOE3, E4 VCC@1 (power), E5 GND@1 (power), E6 GND@6 (power), E7 VCC@6 (power), E8 IOE8, E9 IOE9, E10 IOE10, F1 IOF1, F2 IOF2, F3 IOF3, F4 VCC@2 (power), F5 GND@2 (power), F6 GND@5 (power), F7 VCC@5 (power), F8 IOF8, F9 IOF9, F10 IOF10, G1 IOG1, G2 IOG2, G3 IOG3, G4 VCC@3 (power), G5 GND@3 (power), G6 VCC@4 (power), G7 GND@4 (power), G8 IOG8, G9 IOG9, G10 IOG10, H1 IOH1, H2 TDI, H3 TCK, H4 IOH4, H5 IOH5, H6 IOH6, H7 IOH7, H8 IOH8, H9 IOH9, H10 IOH10, J1 TMS, J2 TDO (out), J3 IOJ3, J4 IOJ4, J5 IOJ5, J6 IOJ6, J7 IOJ7, J8 IOJ8, J9 IOJ9, J10 IOJ10, K1 IOK1, K2 IOK2, K3 IOK3, K4 IOK4, K5 IOK5, K6 IOK6, K7 IOK7, K8 IOK8, K9 IOK9, K10 IOK10

## EPM240M100
designator IC?, comment EPM240M100 Low-cost, low-power CPLD   Auto generated by make-symbol-device-package-bsdl.ulp Rev. 36 Source: EPM240M100.BSD
MPN: EPM240M100C4N; OC_FARNELL: 1635095; OC_NEWARK: 51R0493
footprint MBGA100
pins: A1 IOA1, A2 IOA2, A3 IOA3, A4 IOA4, A5 IOA5, A6 IOA6, A7 IOA7, A8 IOA8, A9 IOA9, A10 IOA10, A11 IOA11, B1 IOB1, B2 IOB2, B3 IOB3, B4 IOB4, B5 IOB5, B6 IOB6, B7 IOB7, B8 IOB8, B9 IOB9, B10 IOB10, B11 IOB11, C1 IOC1, C2 IOC2, C4 VCC@8 (power), C5 IOC5, C6 IOC6, C7 IOC7, C8 VCC@7 (power), C10 IOC10, C11 IOC11, D1 IOD1, D2 IOD2, D3 IOD3, D5 GND@8 (power), D7 GND@7 (power), D9 IOD9, D10 IOD10, D11 IOD11, E1 IOE1, E2 IOE2, E3 VCC@1 (power), E4 GND@1 (power), E8 GND@6 (power), E9 VCC@6 (power), E10 IOE10, E11 IOE11, F1 IOF1, F2 IOF2, F3 IOF3, F9 IOF9, F10 IOF10, F11 IOF11, G1 IOG1, G2 IOG2, G3 VCC@2 (power), G4 GND@2 (power), G8 GND@5 (power), G9 VCC@5 (power), G10 IOG10, G11 IOG11, H1 IOH1, H2 IOH2, H3 IOH3, H5 GND@3 (power), H7 GND@4 (power), H9 IOH9, H10 IOH10, H11 IOH11, J1 TMS, J2 TDI, J4 VCC@3 (power), J5 IOJ5, J6 IOJ6, J7 IOJ7, J8 VCC@4 (power), J10 IOJ10, J11 IOJ11, K1 TCK, K2 TDO (out), K3 IOK3, K4 IOK4, K5 IOK5, K6 IOK6, K7 IOK7, K8 IOK8, K9 IOK9, K10 IOK10, K11 IOK11, L1 IOL1, L2 IOL2, L3 IOL3, L4 IOL4, L5 IOL5, L6 IOL6, L7 IOL7, L8 IOL8, L9 IOL9, L10 IOL10, L11 IOL11

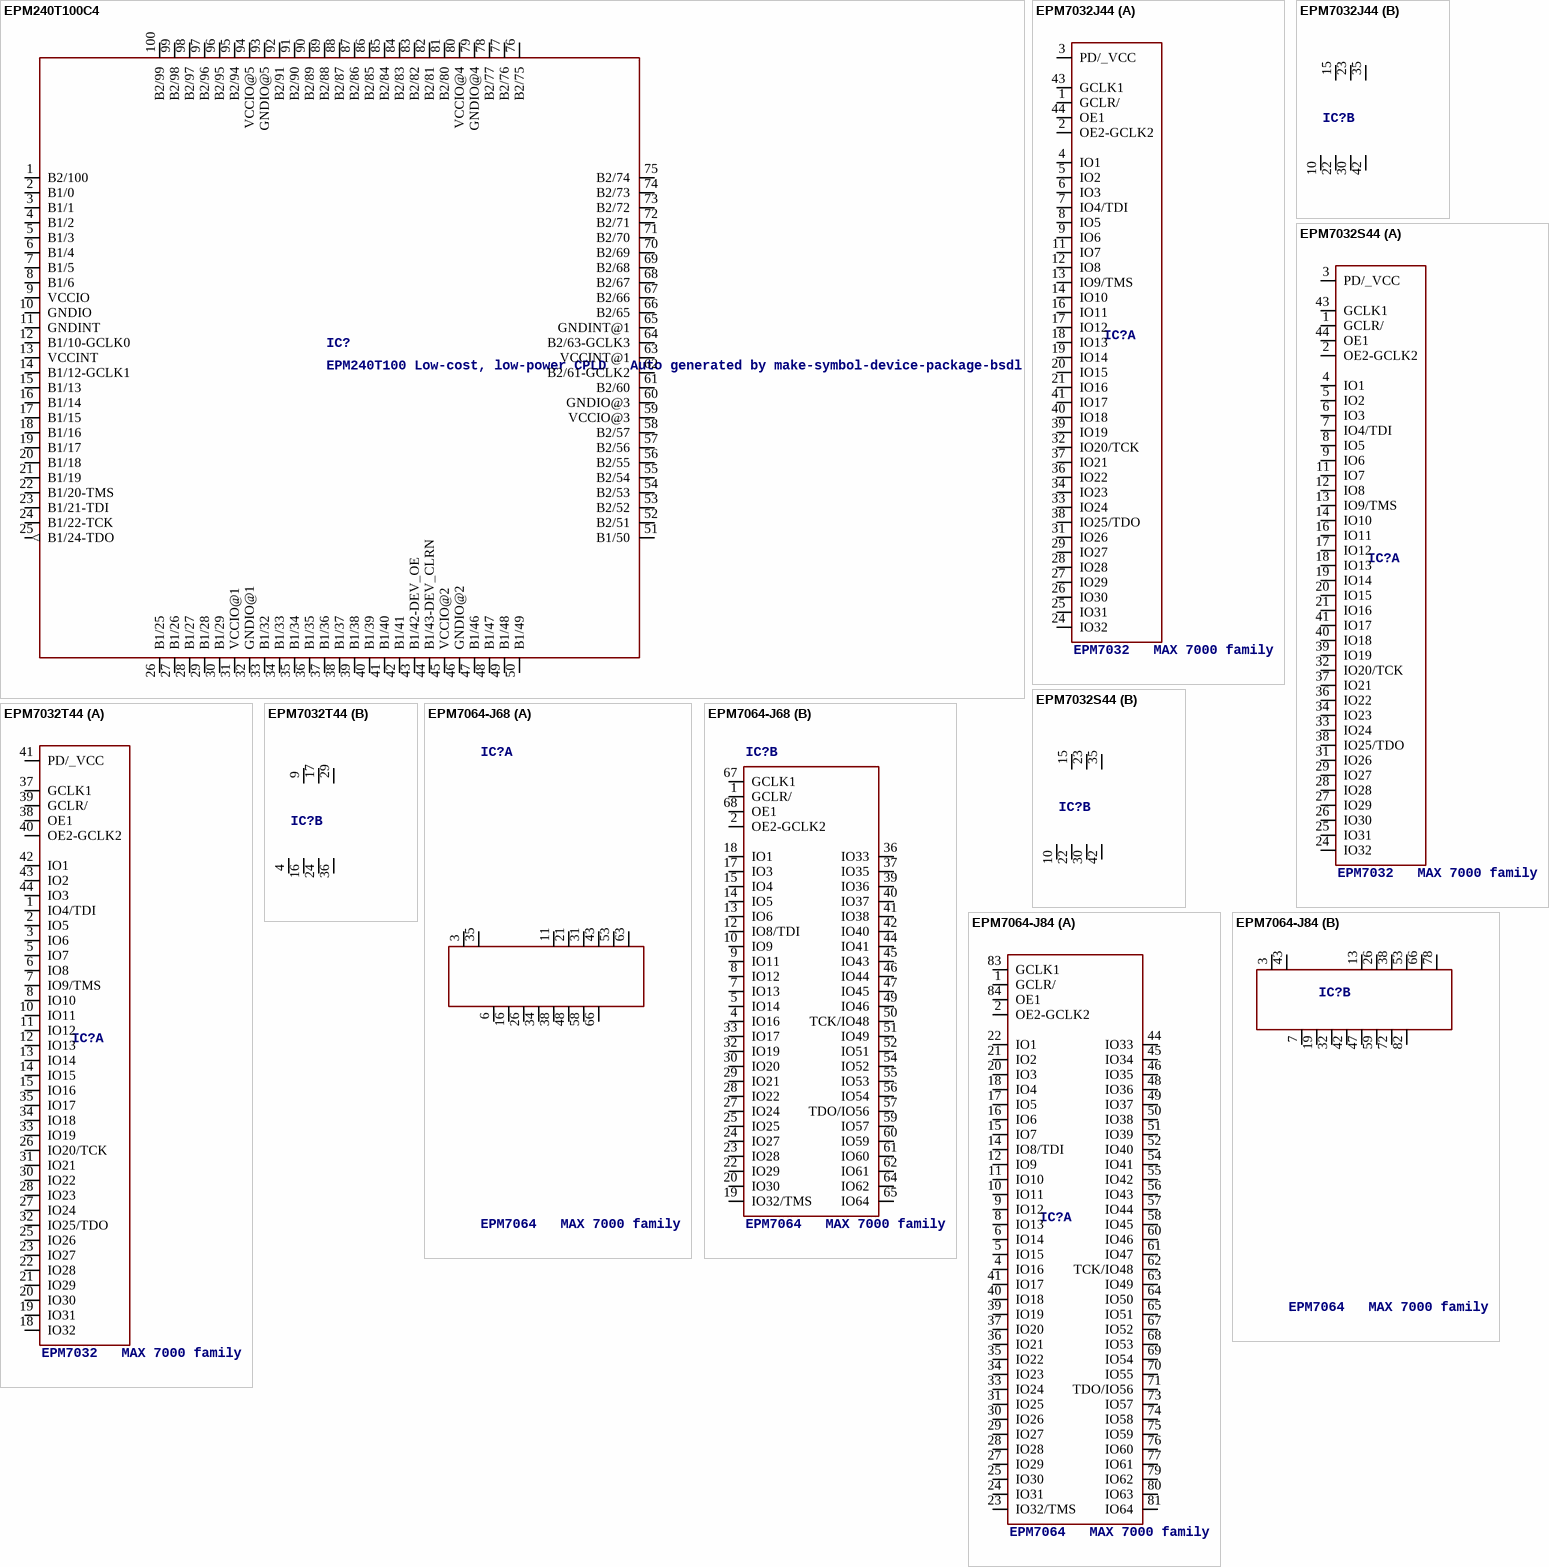
[diagram p40: symbols EPM240T100C4 to EPM7064-J84]

## EPM240T100C4
designator IC?, comment EPM240T100 Low-cost, low-power CPLD   Auto generated by make-symbol-device-package-bsdl.ulp Rev. 35 Source: www.altera.com .. epm240-io.txt
MPN: EPM240T100C4; OC_FARNELL: 1453502; OC_NEWARK: 51R9357
footprint TQFP100
pins: 1 B2/100, 2 B1/0, 3 B1/1, 4 B1/2, 5 B1/3, 6 B1/4, 7 B1/5, 8 B1/6, 9 VCCIO (power), 10 GNDIO (power), 11 GNDINT (power), 12 B1/10-GCLK0, 13 VCCINT (power), 14 B1/12-GCLK1, 15 B1/13, 16 B1/14, 17 B1/15, 18 B1/16, 19 B1/17, 20 B1/18, 21 B1/19, 22 B1/20-TMS, 23 B1/21-TDI, 24 B1/22-TCK, 25 B1/24-TDO (out), 26 B1/25, 27 B1/26, 28 B1/27, 29 B1/28, 30 B1/29, 31 VCCIO@1 (power), 32 GNDIO@1 (power), 33 B1/32, 34 B1/33, 35 B1/34, 36 B1/35, 37 B1/36, 38 B1/37, 39 B1/38, 40 B1/39, 41 B1/40, 42 B1/41, 43 B1/42-DEV_OE, 44 B1/43-DEV_CLRN, 45 VCCIO@2 (power), 46 GNDIO@2 (power), 47 B1/46, 48 B1/47, 49 B1/48, 50 B1/49, 51 B1/50, 52 B2/51, 53 B2/52, 54 B2/53, 55 B2/54, 56 B2/55, 57 B2/56, 58 B2/57, 59 VCCIO@3 (power), 60 GNDIO@3 (power), 61 B2/60, 62 B2/61-GCLK2, 63 VCCINT@1 (power), 64 B2/63-GCLK3, 65 GNDINT@1 (power), 66 B2/65, 67 B2/66, 68 B2/67, 69 B2/68, 70 B2/69, 71 B2/70, 72 B2/71, 73 B2/72, 74 B2/73, 75 B2/74, 76 B2/75, 77 B2/76, 78 B2/77, 79 GNDIO@4 (power), 80 VCCIO@4 (power), 81 B2/80, 82 B2/81, 83 B2/82, 84 B2/83, 85 B2/84, 86 B2/85, 87 B2/86, 88 B2/87, 89 B2/88, 90 B2/89, 91 B2/90, 92 B2/91, 93 GNDIO@5 (power), 94 VCCIO@5 (power), 95 B2/94, 96 B2/95, 97 B2/96, 98 B2/97, 99 B2/98, 100 B2/99

## EPM7032J44
designator IC?, comment EPM7032   MAX 7000 family
OC_FARNELL: unknown; OC_NEWARK: unknown
footprint PLCC44
part A pins: 1 GCLR/, 2 OE2-GCLK2, 3 PD/_VCC, 4 IO1, 5 IO2, 6 IO3, 7 IO4/TDI, 8 IO5, 9 IO6, 11 IO7, 12 IO8, 13 IO9/TMS, 14 IO10, 16 IO11, 17 IO12, 18 IO13, 19 IO14, 20 IO15, 21 IO16, 24 IO32, 25 IO31, 26 IO30, 27 IO29, 28 IO28, 29 IO27, 31 IO26, 32 IO20/TCK, 33 IO24, 34 IO23, 36 IO22, 37 IO21, 38 IO25/TDO, 39 IO19, 40 IO18, 41 IO17, 43 GCLK1, 44 OE1
part B pins: 10 GND (power), 15 VCC (power), 22 GND@1 (power), 23 VCC@1 (power), 30 GND@2 (power), 35 VCC@2 (power), 42 GND@3 (power)

## EPM7032S44
designator IC?, comment EPM7032   MAX 7000 family
MPN: EPM7032SLC44-6N; OC_FARNELL: 1549447; OC_NEWARK: 51R9532
footprint PLCC-S44
part A pins: 1 GCLR/, 2 OE2-GCLK2, 3 PD/_VCC, 4 IO1, 5 IO2, 6 IO3, 7 IO4/TDI, 8 IO5, 9 IO6, 11 IO7, 12 IO8, 13 IO9/TMS, 14 IO10, 16 IO11, 17 IO12, 18 IO13, 19 IO14, 20 IO15, 21 IO16, 24 IO32, 25 IO31, 26 IO30, 27 IO29, 28 IO28, 29 IO27, 31 IO26, 32 IO20/TCK, 33 IO24, 34 IO23, 36 IO22, 37 IO21, 38 IO25/TDO, 39 IO19, 40 IO18, 41 IO17, 43 GCLK1, 44 OE1
part B pins: 10 GND (power), 15 VCC (power), 22 GND@1 (power), 23 VCC@1 (power), 30 GND@2 (power), 35 VCC@2 (power), 42 GND@3 (power)

## EPM7032T44
designator IC?, comment EPM7032   MAX 7000 family
MPN: EPM7032SLC44-6N; OC_FARNELL: 1549447; OC_NEWARK: 51R9532
footprint TQFP44
part A pins: 1 IO4/TDI, 2 IO5, 3 IO6, 5 IO7, 6 IO8, 7 IO9/TMS, 8 IO10, 10 IO11, 11 IO12, 12 IO13, 13 IO14, 14 IO15, 15 IO16, 18 IO32, 19 IO31, 20 IO30, 21 IO29, 22 IO28, 23 IO27, 25 IO26, 26 IO20/TCK, 27 IO24, 28 IO23, 30 IO22, 31 IO21, 32 IO25/TDO, 33 IO19, 34 IO18, 35 IO17, 37 GCLK1, 38 OE1, 39 GCLR/, 40 OE2-GCLK2, 41 PD/_VCC, 42 IO1, 43 IO2, 44 IO3
part B pins: 4 GND (power), 9 VCC (power), 16 GND@1 (power), 17 VCC@1 (power), 24 GND@2 (power), 29 VCC@2 (power), 36 GND@3 (power)

## EPM7064-J68
designator IC?, comment EPM7064   MAX 7000 family
OC_FARNELL: unknown; OC_NEWARK: unknown
footprint PLCC68
part A pins: 3 VCC (power), 6 GND (power), 11 VCCIO (power), 16 GND@1 (power), 21 VCCIO@1 (power), 26 GND@2 (power), 31 VCCIO@2 (power), 34 GND@3 (power), 35 VCC@1 (power), 38 GND@4 (power), 43 VCCIO@3 (power), 48 GND@5 (power), 53 VCCIO@4 (power), 58 GND@6 (power), 63 VCCIO@5 (power), 66 GND@7 (power)
part B pins: 1 GCLR/, 2 OE2-GCLK2, 4 IO16, 5 IO14, 7 IO13, 8 IO12, 9 IO11, 10 IO9, 12 IO8/TDI, 13 IO6, 14 IO5, 15 IO4, 17 IO3, 18 IO1, 19 IO32/TMS, 20 IO30, 22 IO29, 23 IO28, 24 IO27, 25 IO25, 27 IO24, 28 IO22, 29 IO21, 30 IO20, 32 IO19, 33 IO17, 36 IO33, 37 IO35, 39 IO36, 40 IO37, 41 IO38, 42 IO40, 44 IO41, 45 IO43, 46 IO44, 47 IO45, 49 IO46, 50 TCK/IO48, 51 IO49, 52 IO51, 54 IO52, 55 IO53, 56 IO54, 57 TDO/IO56, 59 IO57, 60 IO59, 61 IO60, 62 IO61, 64 IO62, 65 IO64, 67 GCLK1, 68 OE1

## EPM7064-J84
designator IC?, comment EPM7064   MAX 7000 family
MPN: EPM7064SLC84-10N; OC_FARNELL: 1549457; OC_NEWARK: 51R9623
footprint PLCC84
part A pins: 1 GCLR/, 2 OE2-GCLK2, 4 IO16, 5 IO15, 6 IO14, 8 IO13, 9 IO12, 10 IO11, 11 IO10, 12 IO9, 14 IO8/TDI, 15 IO7, 16 IO6, 17 IO5, 18 IO4, 20 IO3, 21 IO2, 22 IO1, 23 IO32/TMS, 24 IO31, 25 IO30, 27 IO29, 28 IO28, 29 IO27, 30 IO26, 31 IO25, 33 IO24, 34 IO23, 35 IO22, 36 IO21, 37 IO20, 39 IO19, 40 IO18, 41 IO17, 44 IO33, 45 IO34, 46 IO35, 48 IO36, 49 IO37, 50 IO38, 51 IO39, 52 IO40, 54 IO41, 55 IO42, 56 IO43, 57 IO44, 58 IO45, 60 IO46, 61 IO47, 62 TCK/IO48, 63 IO49, 64 IO50, 65 IO51, 67 IO52, 68 IO53, 69 IO54, 70 IO55, 71 TDO/IO56, 73 IO57, 74 IO58, 75 IO59, 76 IO60, 77 IO61, 79 IO62, 80 IO63, 81 IO64, 83 GCLK1, 84 OE1
part B pins: 3 VCC (power), 7 GND (power), 13 VCCIO (power), 19 GND@1 (power), 26 VCCIO@1 (power), 32 GND@2 (power), 38 VCCIO@2 (power), 42 GND@3 (power), 43 VCC@1 (power), 47 GND@4 (power), 53 VCCIO@3 (power), 59 GND@5 (power), 66 VCCIO@4 (power), 72 GND@6 (power), 78 VCCIO@5 (power), 82 GND@7 (power)

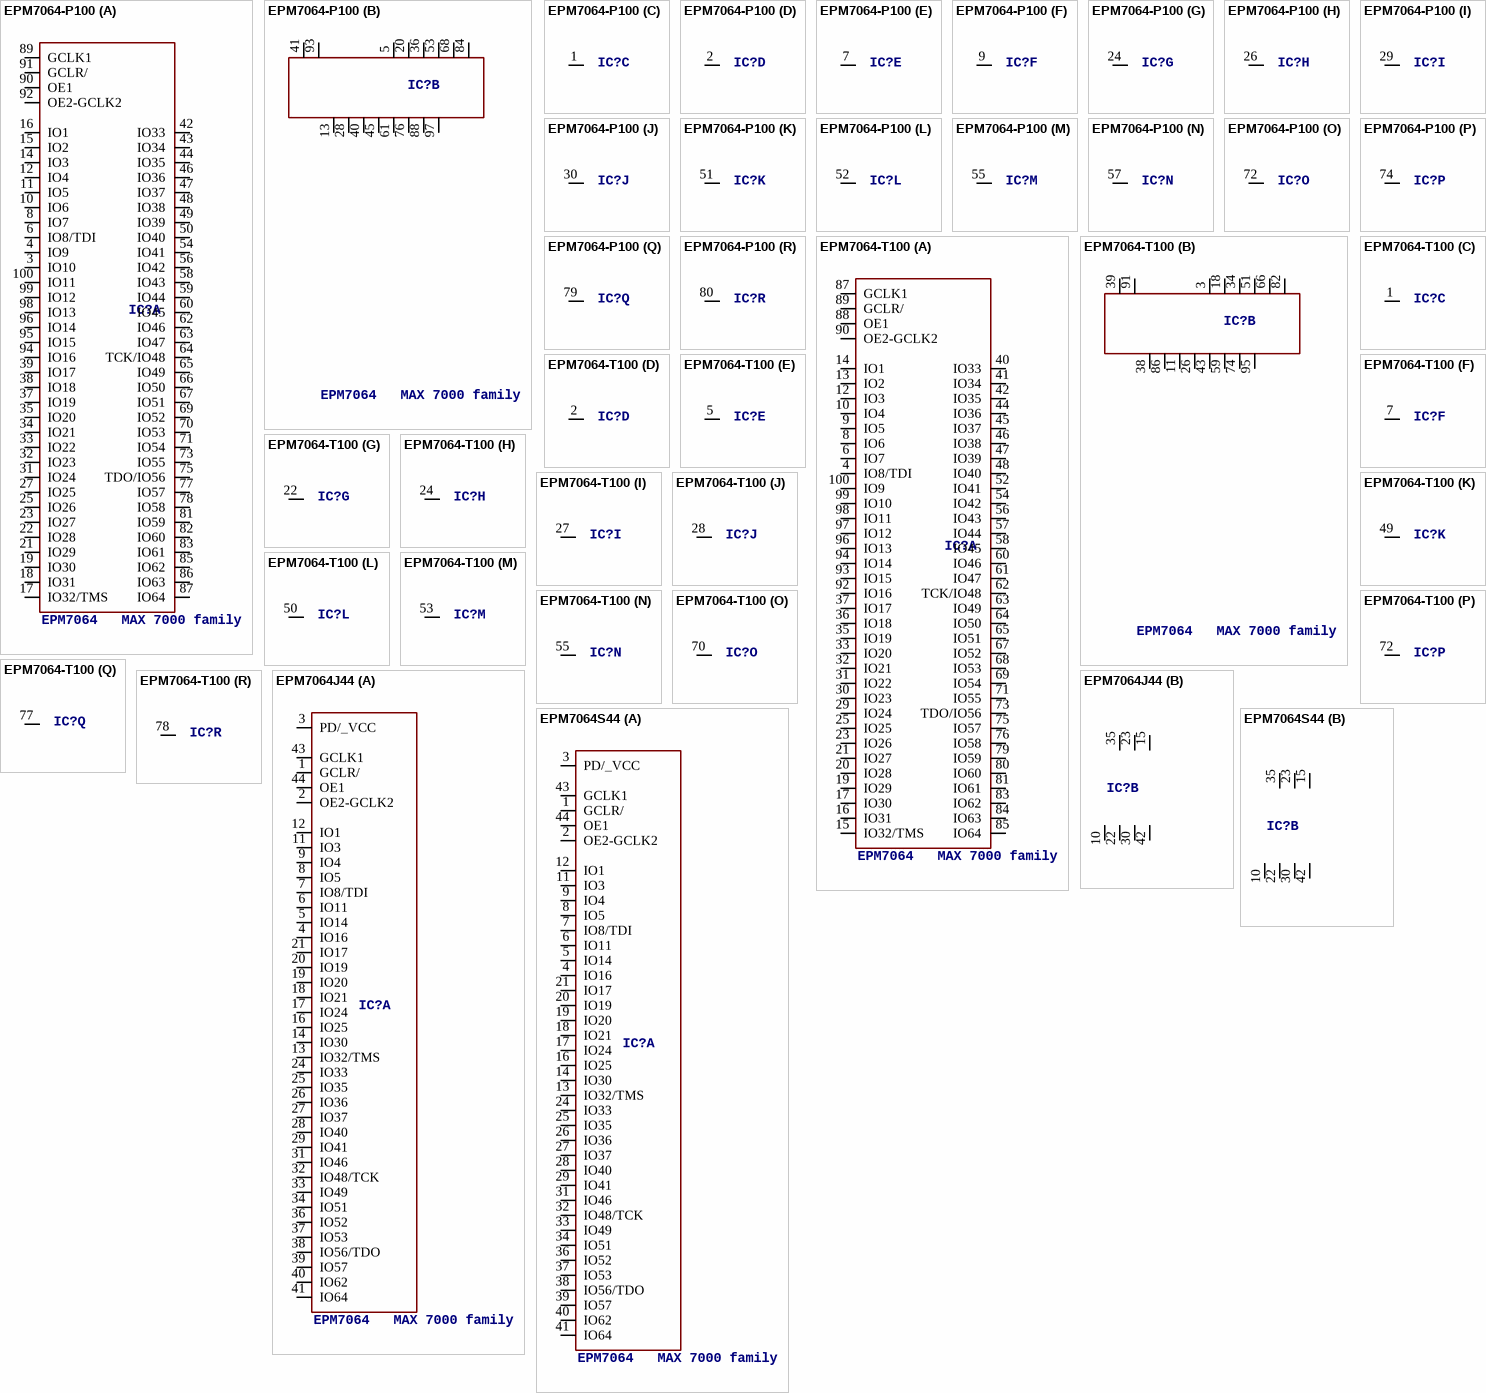
[diagram p41: symbols EPM7064-P100 to EPM7064S44]

## EPM7064-P100
designator IC?, comment EPM7064   MAX 7000 family
MPN: EPM7064STI100-7N; OC_FARNELL: 1549426; OC_NEWARK: 51R9650
footprint PQFP100
part A pins: 3 IO10, 4 IO9, 6 IO8/TDI, 8 IO7, 10 IO6, 11 IO5, 12 IO4, 14 IO3, 15 IO2, 16 IO1, 17 IO32/TMS, 18 IO31, 19 IO30, 21 IO29, 22 IO28, 23 IO27, 25 IO26, 27 IO25, 31 IO24, 32 IO23, 33 IO22, 34 IO21, 35 IO20, 37 IO19, 38 IO18, 39 IO17, 42 IO33, 43 IO34, 44 IO35, 46 IO36, 47 IO37, 48 IO38, 49 IO39, 50 IO40, 54 IO41, 56 IO42, 58 IO43, 59 IO44, 60 IO45, 62 IO46, 63 IO47, 64 TCK/IO48, 65 IO49, 66 IO50, 67 IO51, 69 IO52, 70 IO53, 71 IO54, 73 IO55, 75 TDO/IO56, 77 IO57, 78 IO58, 81 IO59, 82 IO60, 83 IO61, 85 IO62, 86 IO63, 87 IO64, 89 GCLK1, 90 OE1, 91 GCLR/, 92 OE2-GCLK2, 94 IO16, 95 IO15, 96 IO14, 98 IO13, 99 IO12, 100 IO11
part B pins: 5 VCCIO (power), 13 GND (power), 20 VCCIO@1 (power), 28 GND@1 (power), 36 VCCIO@2 (power), 40 GND@2 (power), 41 VCC (power), 45 GND@3 (power), 53 VCCIO@3 (power), 61 GND@4 (power), 68 VCCIO@4 (power), 76 GND@5 (power), 84 VCCIO@5 (power), 88 GND@6 (power), 93 VCC@1 (power), 97 GND@7 (power)
part C pins: 1 NC
part D pins: 2 NC
part E pins: 7 NC
part F pins: 9 NC
part G pins: 24 NC
part H pins: 26 NC
part I pins: 29 NC
part J pins: 30 NC
part K pins: 51 NC
part L pins: 52 NC
part M pins: 55 NC
part N pins: 57 NC
part O pins: 72 NC
part P pins: 74 NC
part Q pins: 79 NC
part R pins: 80 NC

## EPM7064-T100
designator IC?, comment EPM7064   MAX 7000 family
MPN: EPM7064STI100-7N; OC_FARNELL: 1549426; OC_NEWARK: 51R9650
footprint TQFP100
part A pins: 4 IO8/TDI, 6 IO7, 8 IO6, 9 IO5, 10 IO4, 12 IO3, 13 IO2, 14 IO1, 15 IO32/TMS, 16 IO31, 17 IO30, 19 IO29, 20 IO28, 21 IO27, 23 IO26, 25 IO25, 29 IO24, 30 IO23, 31 IO22, 32 IO21, 33 IO20, 35 IO19, 36 IO18, 37 IO17, 40 IO33, 41 IO34, 42 IO35, 44 IO36, 45 IO37, 46 IO38, 47 IO39, 48 IO40, 52 IO41, 54 IO42, 56 IO43, 57 IO44, 58 IO45, 60 IO46, 61 IO47, 62 TCK/IO48, 63 IO49, 64 IO50, 65 IO51, 67 IO52, 68 IO53, 69 IO54, 71 IO55, 73 TDO/IO56, 75 IO57, 76 IO58, 79 IO59, 80 IO60, 81 IO61, 83 IO62, 84 IO63, 85 IO64, 87 GCLK1, 88 OE1, 89 GCLR/, 90 OE2-GCLK2, 92 IO16, 93 IO15, 94 IO14, 96 IO13, 97 IO12, 98 IO11, 99 IO10, 100 IO9
part B pins: 3 VCCIO (power), 11 GND@2 (power), 18 VCCIO@1 (power), 26 GND@3 (power), 34 VCCIO@2 (power), 38 GND (power), 39 VCC (power), 43 GND@4 (power), 51 VCCIO@3 (power), 59 GND@5 (power), 66 VCCIO@4 (power), 74 GND@6 (power), 82 VCCIO@5 (power), 86 GND@1 (power), 91 VCC@1 (power), 95 GND@7 (power)
part C pins: 1 NC
part D pins: 2 NC
part E pins: 5 NC
part F pins: 7 NC
part G pins: 22 NC
part H pins: 24 NC
part I pins: 27 NC
part J pins: 28 NC
part K pins: 49 NC
part L pins: 50 NC
part M pins: 53 NC
part N pins: 55 NC
part O pins: 70 NC
part P pins: 72 NC
part Q pins: 77 NC
part R pins: 78 NC

## EPM7064J44
designator IC?, comment EPM7064   MAX 7000 family
OC_FARNELL: unknown; OC_NEWARK: unknown
footprint PLCC44
part A pins: 1 GCLR/, 2 OE2-GCLK2, 3 PD/_VCC, 4 IO16, 5 IO14, 6 IO11, 7 IO8/TDI, 8 IO5, 9 IO4, 11 IO3, 12 IO1, 13 IO32/TMS, 14 IO30, 16 IO25, 17 IO24, 18 IO21, 19 IO20, 20 IO19, 21 IO17, 24 IO33, 25 IO35, 26 IO36, 27 IO37, 28 IO40, 29 IO41, 31 IO46, 32 IO48/TCK, 33 IO49, 34 IO51, 36 IO52, 37 IO53, 38 IO56/TDO, 39 IO57, 40 IO62, 41 IO64, 43 GCLK1, 44 OE1
part B pins: 10 GND (power), 15 VCC@2 (power), 22 GND@1 (power), 23 VCC@1 (power), 30 GND@2 (power), 35 VCC (power), 42 GND@3 (power)

## EPM7064S44
designator IC?, comment EPM7064   MAX 7000 family
MPN: EPM7064SLC44-10N; OC_FARNELL: 1549449; OC_NEWARK: 51R0526
footprint PLCC-S44
part A pins: 1 GCLR/, 2 OE2-GCLK2, 3 PD/_VCC, 4 IO16, 5 IO14, 6 IO11, 7 IO8/TDI, 8 IO5, 9 IO4, 11 IO3, 12 IO1, 13 IO32/TMS, 14 IO30, 16 IO25, 17 IO24, 18 IO21, 19 IO20, 20 IO19, 21 IO17, 24 IO33, 25 IO35, 26 IO36, 27 IO37, 28 IO40, 29 IO41, 31 IO46, 32 IO48/TCK, 33 IO49, 34 IO51, 36 IO52, 37 IO53, 38 IO56/TDO, 39 IO57, 40 IO62, 41 IO64, 43 GCLK1, 44 OE1
part B pins: 10 GND (power), 15 VCC@2 (power), 22 GND@1 (power), 23 VCC@1 (power), 30 GND@2 (power), 35 VCC (power), 42 GND@3 (power)

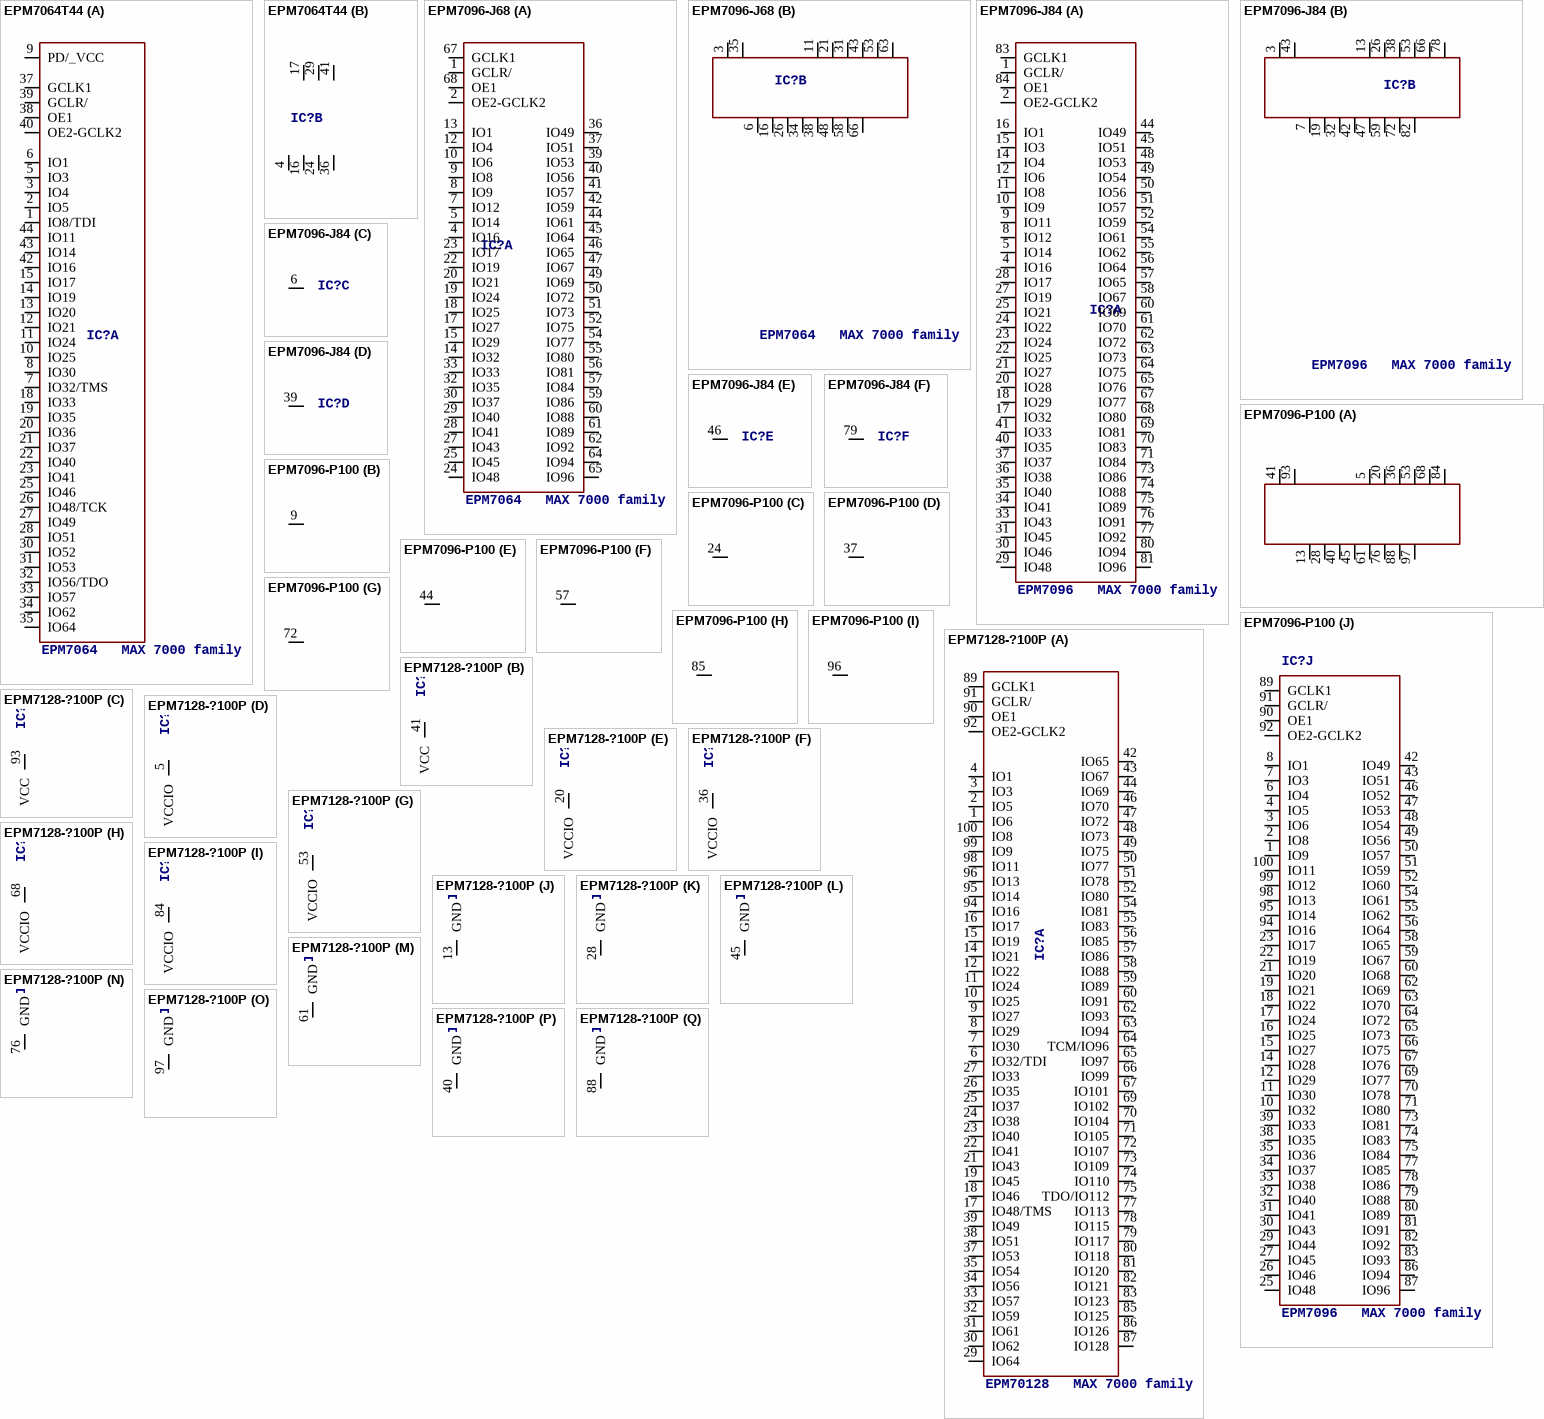
[diagram p42: symbols EPM7064T44 to EPM7128-?100P]

## EPM7064T44
designator IC?, comment EPM7064   MAX 7000 family
MPN: EPM7064TC44-15; OC_FARNELL: unknown; OC_NEWARK: 51R9653
footprint TQFP44
part A pins: 1 IO8/TDI, 2 IO5, 3 IO4, 5 IO3, 6 IO1, 7 IO32/TMS, 8 IO30, 9 PD/_VCC, 10 IO25, 11 IO24, 12 IO21, 13 IO20, 14 IO19, 15 IO17, 18 IO33, 19 IO35, 20 IO36, 21 IO37, 22 IO40, 23 IO41, 25 IO46, 26 IO48/TCK, 27 IO49, 28 IO51, 30 IO52, 31 IO53, 32 IO56/TDO, 33 IO57, 34 IO62, 35 IO64, 37 GCLK1, 38 OE1, 39 GCLR/, 40 OE2-GCLK2, 42 IO16, 43 IO14, 44 IO11
part B pins: 4 GND (power), 16 GND@1 (power), 17 VCC (power), 24 GND@2 (power), 29 VCC@1 (power), 36 GND@3 (power), 41 VCC@2 (power)

## EPM7096-J68
designator IC?, comment EPM7064   MAX 7000 family
MPN: EPM7096LC68-10; OC_FARNELL: unknown; OC_NEWARK: 51R9655
footprint PLCC68
part A pins: 1 GCLR/, 2 OE2-GCLK2, 4 IO16, 5 IO14, 7 IO12, 8 IO9, 9 IO8, 10 IO6, 12 IO4, 13 IO1, 14 IO32, 15 IO29, 17 IO27, 18 IO25, 19 IO24, 20 IO21, 22 IO19, 23 IO17, 24 IO48, 25 IO45, 27 IO43, 28 IO41, 29 IO40, 30 IO37, 32 IO35, 33 IO33, 36 IO49, 37 IO51, 39 IO53, 40 IO56, 41 IO57, 42 IO59, 44 IO61, 45 IO64, 46 IO65, 47 IO67, 49 IO69, 50 IO72, 51 IO73, 52 IO75, 54 IO77, 55 IO80, 56 IO81, 57 IO84, 59 IO86, 60 IO88, 61 IO89, 62 IO92, 64 IO94, 65 IO96, 67 GCLK1, 68 OE1
part B pins: 3 VCC (power), 6 GND (power), 11 VCCIO (power), 16 GND@1 (power), 21 VCCIO@1 (power), 26 GND@2 (power), 31 VCCIO@2 (power), 34 GND@3 (power), 35 VCC@1 (power), 38 GND@4 (power), 43 VCCIO@3 (power), 48 GND@5 (power), 53 VCCIO@4 (power), 58 GND@6 (power), 63 VCCIO@5 (power), 66 GND@7 (power)

## EPM7096-J84
designator IC?, comment EPM7096   MAX 7000 family
MPN: EPM7096LC84-10; OC_FARNELL: unknown; OC_NEWARK: 51R9659
footprint PLCC84
part A pins: 1 GCLR/, 2 OE2-GCLK2, 4 IO16, 5 IO14, 8 IO12, 9 IO11, 10 IO9, 11 IO8, 12 IO6, 14 IO4, 15 IO3, 16 IO1, 17 IO32, 18 IO29, 20 IO28, 21 IO27, 22 IO25, 23 IO24, 24 IO22, 25 IO21, 27 IO19, 28 IO17, 29 IO48, 30 IO46, 31 IO45, 33 IO43, 34 IO41, 35 IO40, 36 IO38, 37 IO37, 40 IO35, 41 IO33, 44 IO49, 45 IO51, 48 IO53, 49 IO54, 50 IO56, 51 IO57, 52 IO59, 54 IO61, 55 IO62, 56 IO64, 57 IO65, 58 IO67, 60 IO69, 61 IO70, 62 IO72, 63 IO73, 64 IO75, 65 IO76, 67 IO77, 68 IO80, 69 IO81, 70 IO83, 71 IO84, 73 IO86, 74 IO88, 75 IO89, 76 IO91, 77 IO92, 80 IO94, 81 IO96, 83 GCLK1, 84 OE1
part B pins: 3 VCC (power), 7 GND (power), 13 VCCIO (power), 19 GND@1 (power), 26 VCCIO@1 (power), 32 GND@2 (power), 38 VCCIO@2 (power), 42 GND@3 (power), 43 VCC@1 (power), 47 GND@4 (power), 53 VCCIO@3 (power), 59 GND@5 (power), 66 VCCIO@4 (power), 72 GND@6 (power), 78 VCCIO@5 (power), 82 GND@7 (power)
part C pins: 6 NC
part D pins: 39 NC
part E pins: 46 NC
part F pins: 79 NC

## EPM7096-P100
designator IC?, comment EPM7096   MAX 7000 family
MPN: EPM7096QC100-10; OC_FARNELL: unknown; OC_NEWARK: 51R9665
footprint PQFP100
part A pins: 5 VCCIO (power), 13 GND (power), 20 VCCIO@1 (power), 28 GND@1 (power), 36 VCCIO@2 (power), 40 GND@2 (power), 41 VCC (power), 45 GND@3 (power), 53 VCCIO@3 (power), 61 GND@4 (power), 68 VCCIO@4 (power), 76 GND@5 (power), 84 VCCIO@5 (power), 88 GND@6 (power), 93 VCC@1 (power), 97 GND@7 (power)
part B pins: 9 NC
part C pins: 24 NC
part D pins: 37 NC
part E pins: 44 NC
part F pins: 57 NC
part G pins: 72 NC
part H pins: 85 NC
part I pins: 96 NC
part J pins: 1 IO9, 2 IO8, 3 IO6, 4 IO5, 6 IO4, 7 IO3, 8 IO1, 10 IO32, 11 IO30, 12 IO29, 14 IO28, 15 IO27, 16 IO25, 17 IO24, 18 IO22, 19 IO21, 21 IO20, 22 IO19, 23 IO17, 25 IO48, 26 IO46, 27 IO45, 29 IO44, 30 IO43, 31 IO41, 32 IO40, 33 IO38, 34 IO37, 35 IO36, 38 IO35, 39 IO33, 42 IO49, 43 IO51, 46 IO52, 47 IO53, 48 IO54, 49 IO56, 50 IO57, 51 IO59, 52 IO60, 54 IO61, 55 IO62, 56 IO64, 58 IO65, 59 IO67, 60 IO68, 62 IO69, 63 IO70, 64 IO72, 65 IO73, 66 IO75, 67 IO76, 69 IO77, 70 IO78, 71 IO80, 73 IO81, 74 IO83, 75 IO84, 77 IO85, 78 IO86, 79 IO88, 80 IO89, 81 IO91, 82 IO92, 83 IO93, 86 IO94, 87 IO96, 89 GCLK1, 90 OE1, 91 GCLR/, 92 OE2-GCLK2, 94 IO16, 95 IO14, 98 IO13, 99 IO12, 100 IO11

## EPM7128-?100P
designator IC?, comment EPM70128   MAX 7000 family
MPN: EPM7128SQC100-7N; OC_FARNELL: 1549424; OC_NEWARK: 51R0530
footprint PQFP100
part A pins: 1 IO6, 2 IO5, 3 IO3, 4 IO1, 6 IO32/TDI, 7 IO30, 8 IO29, 9 IO27, 10 IO25, 11 IO24, 12 IO22, 14 IO21, 15 IO19, 16 IO17, 17 IO48/TMS, 18 IO46, 19 IO45, 21 IO43, 22 IO41, 23 IO40, 24 IO38, 25 IO37, 26 IO35, 27 IO33, 29 IO64, 30 IO62, 31 IO61, 32 IO59, 33 IO57, 34 IO56, 35 IO54, 37 IO53, 38 IO51, 39 IO49, 42 IO65, 43 IO67, 44 IO69, 46 IO70, 47 IO72, 48 IO73, 49 IO75, 50 IO77, 51 IO78, 52 IO80, 54 IO81, 55 IO83, 56 IO85, 57 IO86, 58 IO88, 59 IO89, 60 IO91, 62 IO93, 63 IO94, 64 TCM/IO96, 65 IO97, 66 IO99, 67 IO101, 69 IO102, 70 IO104, 71 IO105, 72 IO107, 73 IO109, 74 IO110, 75 TDO/IO112, 77 IO113, 78 IO115, 79 IO117, 80 IO118, 81 IO120, 82 IO121, 83 IO123, 85 IO125, 86 IO126, 87 IO128, 89 GCLK1, 90 OE1, 91 GCLR/, 92 OE2-GCLK2, 94 IO16, 95 IO14, 96 IO13, 98 IO11, 99 IO9, 100 IO8
part B pins: 41 VCC (power)
part C pins: 93 VCC (power)
part D pins: 5 VCCIO (power)
part E pins: 20 VCCIO (power)
part F pins: 36 VCCIO (power)
part G pins: 53 VCCIO (power)
part H pins: 68 VCCIO (power)
part I pins: 84 VCCIO (power)
part J pins: 13 GND (power)
part K pins: 28 GND (power)
part L pins: 45 GND (power)
part M pins: 61 GND (power)
part N pins: 76 GND (power)
part O pins: 97 GND (power)
part P pins: 40 GND (power)
part Q pins: 88 GND (power)

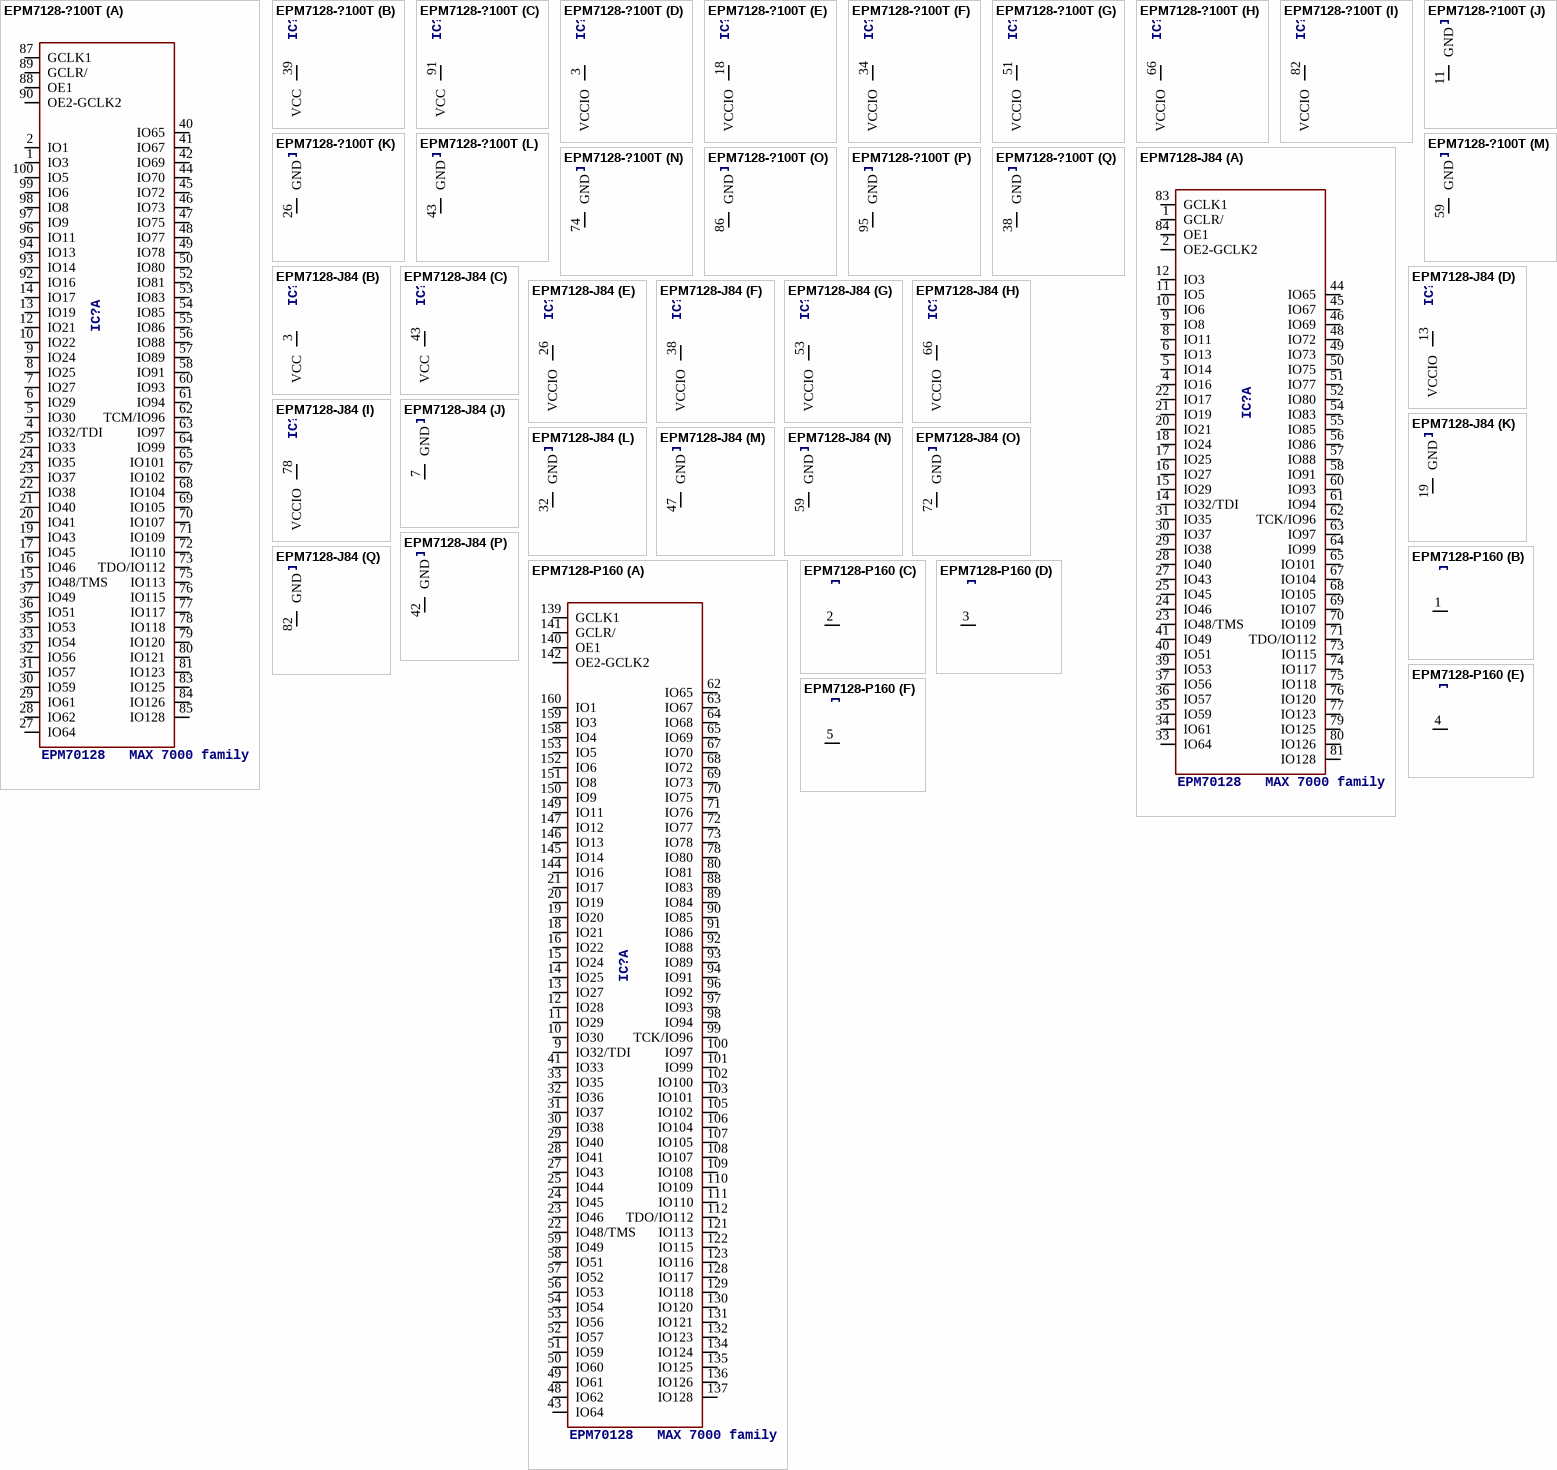
[diagram p43: symbols EPM7128-?100T to EPM7128-P160]

## EPM7128-?100T
designator IC?, comment EPM70128   MAX 7000 family
MPN: EPM7128STC100-7N; OC_FARNELL: 1549427; OC_NEWARK: 51R9778
footprint TQFP100
part A pins: 1 IO3, 2 IO1, 4 IO32/TDI, 5 IO30, 6 IO29, 7 IO27, 8 IO25, 9 IO24, 10 IO22, 12 IO21, 13 IO19, 14 IO17, 15 IO48/TMS, 16 IO46, 17 IO45, 19 IO43, 20 IO41, 21 IO40, 22 IO38, 23 IO37, 24 IO35, 25 IO33, 27 IO64, 28 IO62, 29 IO61, 30 IO59, 31 IO57, 32 IO56, 33 IO54, 35 IO53, 36 IO51, 37 IO49, 40 IO65, 41 IO67, 42 IO69, 44 IO70, 45 IO72, 46 IO73, 47 IO75, 48 IO77, 49 IO78, 50 IO80, 52 IO81, 53 IO83, 54 IO85, 55 IO86, 56 IO88, 57 IO89, 58 IO91, 60 IO93, 61 IO94, 62 TCM/IO96, 63 IO97, 64 IO99, 65 IO101, 67 IO102, 68 IO104, 69 IO105, 70 IO107, 71 IO109, 72 IO110, 73 TDO/IO112, 75 IO113, 76 IO115, 77 IO117, 78 IO118, 79 IO120, 80 IO121, 81 IO123, 83 IO125, 84 IO126, 85 IO128, 87 GCLK1, 88 OE1, 89 GCLR/, 90 OE2-GCLK2, 92 IO16, 93 IO14, 94 IO13, 96 IO11, 97 IO9, 98 IO8, 99 IO6, 100 IO5
part B pins: 39 VCC (power)
part C pins: 91 VCC (power)
part D pins: 3 VCCIO (power)
part E pins: 18 VCCIO (power)
part F pins: 34 VCCIO (power)
part G pins: 51 VCCIO (power)
part H pins: 66 VCCIO (power)
part I pins: 82 VCCIO (power)
part J pins: 11 GND (power)
part K pins: 26 GND (power)
part L pins: 43 GND (power)
part M pins: 59 GND (power)
part N pins: 74 GND (power)
part O pins: 86 GND (power)
part P pins: 95 GND (power)
part Q pins: 38 GND (power)

## EPM7128-J84
designator IC?, comment EPM70128   MAX 7000 family
MPN: EPM7128SLC84-7N; OC_FARNELL: 1549458; OC_NEWARK: 51R9744
footprint PLCC84
part A pins: 1 GCLR/, 2 OE2-GCLK2, 4 IO16, 5 IO14, 6 IO13, 8 IO11, 9 IO8, 10 IO6, 11 IO5, 12 IO3, 14 IO32/TDI, 15 IO29, 16 IO27, 17 IO25, 18 IO24, 20 IO21, 21 IO19, 22 IO17, 23 IO48/TMS, 24 IO46, 25 IO45, 27 IO43, 28 IO40, 29 IO38, 30 IO37, 31 IO35, 33 IO64, 34 IO61, 35 IO59, 36 IO57, 37 IO56, 39 IO53, 40 IO51, 41 IO49, 44 IO65, 45 IO67, 46 IO69, 48 IO72, 49 IO73, 50 IO75, 51 IO77, 52 IO80, 54 IO83, 55 IO85, 56 IO86, 57 IO88, 58 IO91, 60 IO93, 61 IO94, 62 TCK/IO96, 63 IO97, 64 IO99, 65 IO101, 67 IO104, 68 IO105, 69 IO107, 70 IO109, 71 TDO/IO112, 73 IO115, 74 IO117, 75 IO118, 76 IO120, 77 IO123, 79 IO125, 80 IO126, 81 IO128, 83 GCLK1, 84 OE1
part B pins: 3 VCC (power)
part C pins: 43 VCC (power)
part D pins: 13 VCCIO (power)
part E pins: 26 VCCIO (power)
part F pins: 38 VCCIO (power)
part G pins: 53 VCCIO (power)
part H pins: 66 VCCIO (power)
part I pins: 78 VCCIO (power)
part J pins: 7 GND (power)
part K pins: 19 GND (power)
part L pins: 32 GND (power)
part M pins: 47 GND (power)
part N pins: 59 GND (power)
part O pins: 72 GND (power)
part P pins: 42 GND (power)
part Q pins: 82 GND (power)

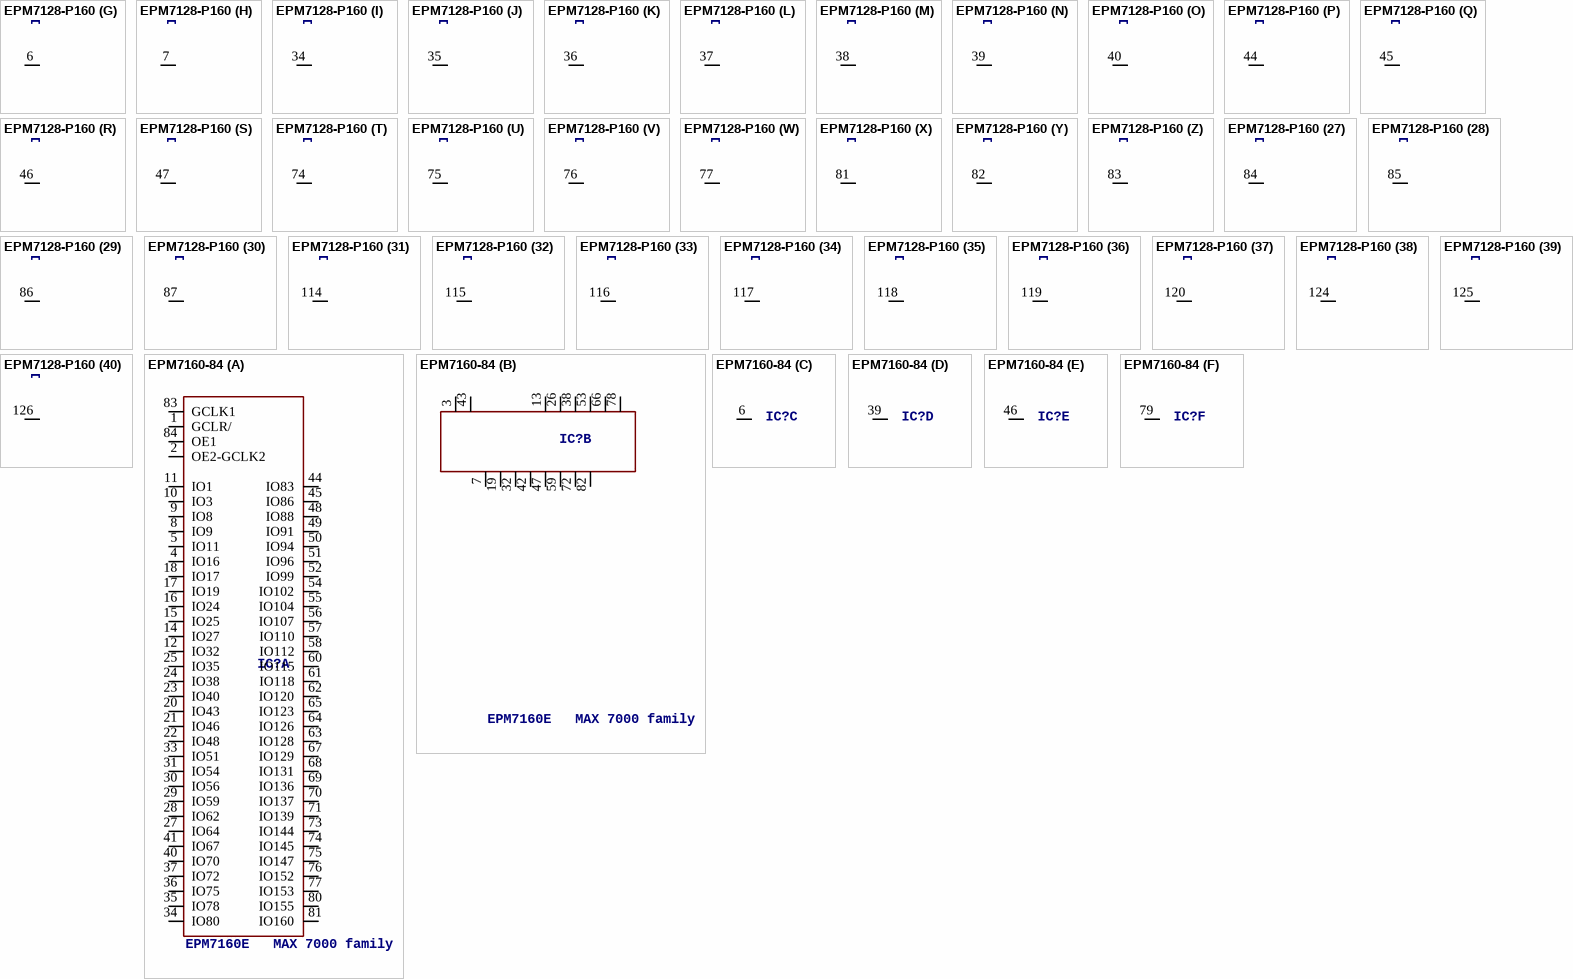
[diagram p44: symbols EPM7128-P160 to EPM7160-84]

## EPM7128-P160
designator IC?, comment EPM70128   MAX 7000 family
MPN: EPM7128SQC160-10N; OC_FARNELL: 1549435; OC_NEWARK: 51R9760
footprint PQFP160
part A pins: 9 IO32/TDI, 10 IO30, 11 IO29, 12 IO28, 13 IO27, 14 IO25, 15 IO24, 16 IO22, 18 IO21, 19 IO20, 20 IO19, 21 IO17, 22 IO48/TMS, 23 IO46, 24 IO45, 25 IO44, 27 IO43, 28 IO41, 29 IO40, 30 IO38, 31 IO37, 32 IO36, 33 IO35, 41 IO33, 43 IO64, 48 IO62, 49 IO61, 50 IO60, 51 IO59, 52 IO57, 53 IO56, 54 IO54, 56 IO53, 57 IO52, 58 IO51, 59 IO49, 62 IO65, 63 IO67, 64 IO68, 65 IO69, 67 IO70, 68 IO72, 69 IO73, 70 IO75, 71 IO76, 72 IO77, 73 IO78, 78 IO80, 80 IO81, 88 IO83, 89 IO84, 90 IO85, 91 IO86, 92 IO88, 93 IO89, 94 IO91, 96 IO92, 97 IO93, 98 IO94, 99 TCK/IO96, 100 IO97, 101 IO99, 102 IO100, 103 IO101, 105 IO102, 106 IO104, 107 IO105, 108 IO107, 109 IO108, 110 IO109, 111 IO110, 112 TDO/IO112, 121 IO113, 122 IO115, 123 IO116, 128 IO117, 129 IO118, 130 IO120, 131 IO121, 132 IO123, 134 IO124, 135 IO125, 136 IO126, 137 IO128, 139 GCLK1, 140 OE1, 141 GCLR/, 142 OE2-GCLK2, 144 IO16, 145 IO14, 146 IO13, 147 IO12, 149 IO11, 150 IO9, 151 IO8, 152 IO6, 153 IO5, 158 IO4, 159 IO3, 160 IO1
part B pins: 1 NC
part C pins: 2 NC
part D pins: 3 NC
part E pins: 4 NC
part F pins: 5 NC
part G pins: 6 NC
part H pins: 7 NC
part I pins: 34 NC
part J pins: 35 NC
part K pins: 36 NC
part L pins: 37 NC
part M pins: 38 NC
part N pins: 39 NC
part O pins: 40 NC
part P pins: 44 NC
part Q pins: 45 NC
part R pins: 46 NC
part S pins: 47 NC
part T pins: 74 NC
part U pins: 75 NC
part V pins: 76 NC
part W pins: 77 NC
part X pins: 81 NC
part Y pins: 82 NC
part Z pins: 83 NC
part 27 pins: 84 NC
part 28 pins: 85 NC
part 29 pins: 86 NC
part 30 pins: 87 NC
part 31 pins: 114 NC
part 32 pins: 115 NC
part 33 pins: 116 NC
part 34 pins: 117 NC
part 35 pins: 118 NC
part 36 pins: 119 NC
part 37 pins: 120 NC
part 38 pins: 124 NC
part 39 pins: 125 NC
part 40 pins: 126 NC
part 41 pins: 127 NC
part 42 pins: 154 NC
part 43 pins: 155 NC
part 44 pins: 156 NC
part 45 pins: 157 NC
part 46 pins: 61 VCC (power)
part 47 pins: 143 VCC (power)
part 48 pins: 8 VCCIO (power)
part 49 pins: 26 VCCIO (power)
part 50 pins: 55 VCCIO (power)
part 51 pins: 79 VCCIO (power)
part 52 pins: 104 VCCIO (power)
part 53 pins: 133 VCCIO (power)
part 54 pins: 17 GND (power)
part 55 pins: 42 GND (power)
part 56 pins: 60 GND (power)
part 57 pins: 66 GND (power)
part 58 pins: 95 GND (power)
part 59 pins: 113 GND (power)
part 60 pins: 148 GND (power)
part 61 pins: 138 GND (power)

## EPM7160-84
designator IC?, comment EPM7160E   MAX 7000 family
MPN: EPM7160SLC84-10N; OC_FARNELL: 1549460; OC_NEWARK: 51R0533
footprint PLCC84
part A pins: 1 GCLR/, 2 OE2-GCLK2, 4 IO16, 5 IO11, 8 IO9, 9 IO8, 10 IO3, 11 IO1, 12 IO32, 14 IO27, 15 IO25, 16 IO24, 17 IO19, 18 IO17, 20 IO43, 21 IO46, 22 IO48, 23 IO40, 24 IO38, 25 IO35, 27 IO64, 28 IO62, 29 IO59, 30 IO56, 31 IO54, 33 IO51, 34 IO80, 35 IO78, 36 IO75, 37 IO72, 40 IO70, 41 IO67, 44 IO83, 45 IO86, 48 IO88, 49 IO91, 50 IO94, 51 IO96, 52 IO99, 54 IO102, 55 IO104, 56 IO107, 57 IO110, 58 IO112, 60 IO115, 61 IO118, 62 IO120, 63 IO128, 64 IO126, 65 IO123, 67 IO129, 68 IO131, 69 IO136, 70 IO137, 71 IO139, 73 IO144, 74 IO145, 75 IO147, 76 IO152, 77 IO153, 80 IO155, 81 IO160, 83 GCLK1, 84 OE1
part B pins: 3 VCC (power), 7 GND (power), 13 VCCIO (power), 19 GND@1 (power), 26 VCCIO@1 (power), 32 GND@2 (power), 38 VCCIO@2 (power), 42 GND@3 (power), 43 VCC@1 (power), 47 GND@4 (power), 53 VCCIO@3 (power), 59 GND@5 (power), 66 VCCIO@4 (power), 72 GND@6 (power), 78 VCCIO@5 (power), 82 GND@7 (power)
part C pins: 6 NC
part D pins: 39 NC
part E pins: 46 NC
part F pins: 79 NC

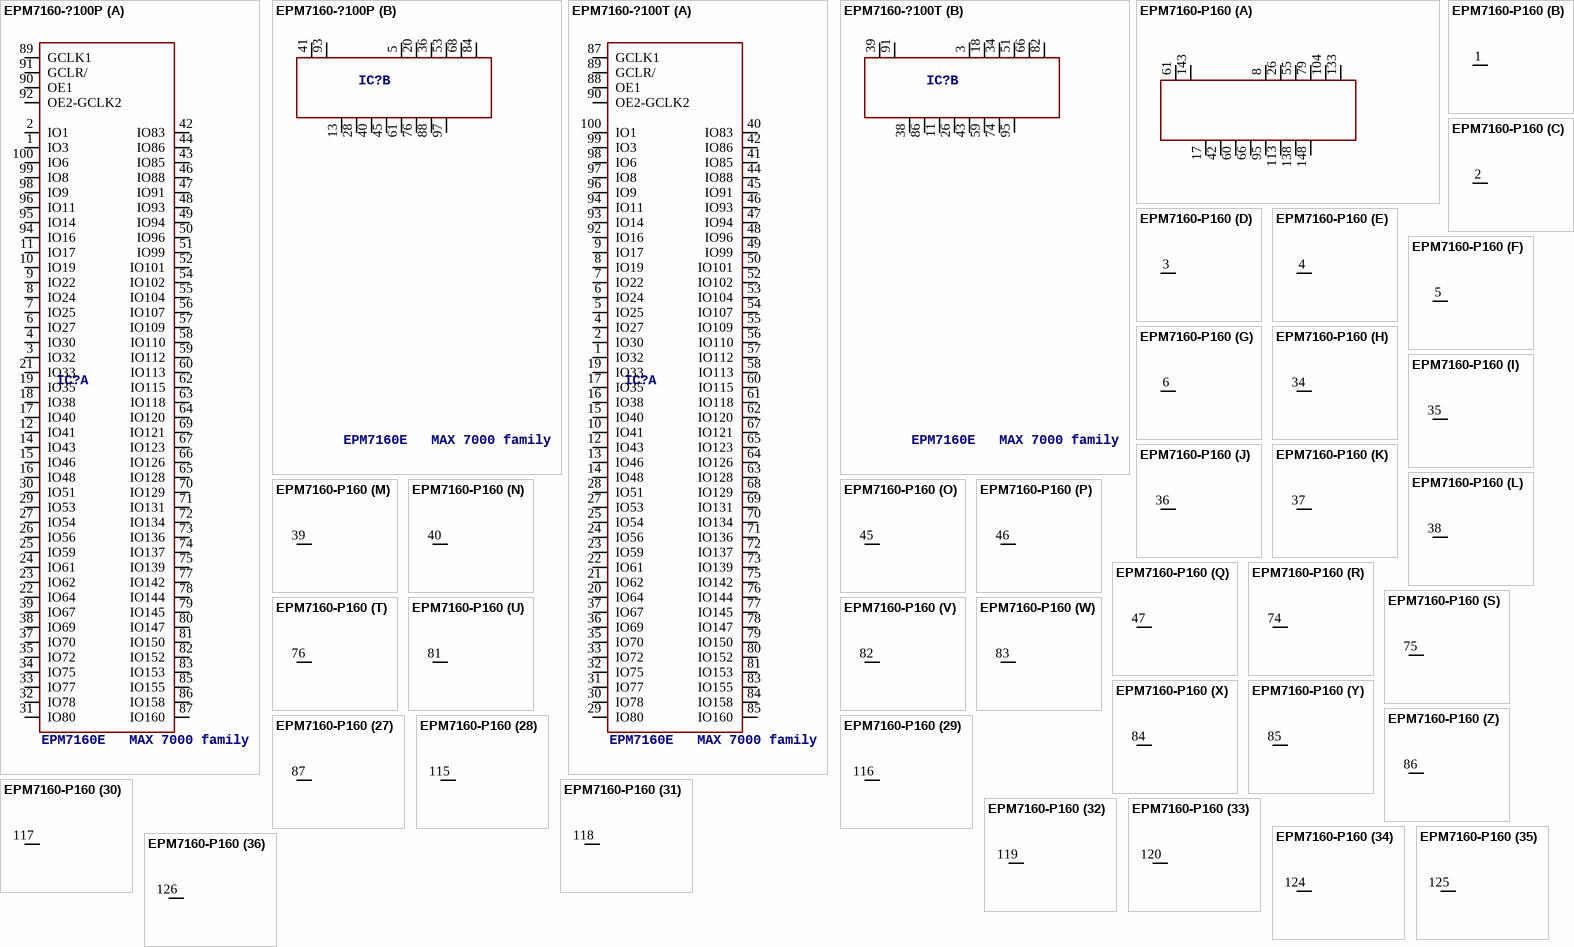
[diagram p45: symbols EPM7160-?100P to EPM7160-P160]

## EPM7160-?100P
designator IC?, comment EPM7160E   MAX 7000 family
MPN: EPM7160SQC160-10N; OC_FARNELL: 1549437; OC_NEWARK: 51R9800
footprint PQFP100
part A pins: 1 IO3, 2 IO1, 3 IO32, 4 IO30, 6 IO27, 7 IO25, 8 IO24, 9 IO22, 10 IO19, 11 IO17, 12 IO41, 14 IO43, 15 IO46, 16 IO48, 17 IO40, 18 IO38, 19 IO35, 21 IO33, 22 IO64, 23 IO62, 24 IO61, 25 IO59, 26 IO56, 27 IO54, 29 IO53, 30 IO51, 31 IO80, 32 IO78, 33 IO77, 34 IO75, 35 IO72, 37 IO70, 38 IO69, 39 IO67, 42 IO83, 43 IO85, 44 IO86, 46 IO88, 47 IO91, 48 IO93, 49 IO94, 50 IO96, 51 IO99, 52 IO101, 54 IO102, 55 IO104, 56 IO107, 57 IO109, 58 IO110, 59 IO112, 60 IO113, 62 IO115, 63 IO118, 64 IO120, 65 IO128, 66 IO126, 67 IO123, 69 IO121, 70 IO129, 71 IO131, 72 IO134, 73 IO136, 74 IO137, 75 IO139, 77 IO142, 78 IO144, 79 IO145, 80 IO147, 81 IO150, 82 IO152, 83 IO153, 85 IO155, 86 IO158, 87 IO160, 89 GCLK1, 90 OE1, 91 GCLR/, 92 OE2-GCLK2, 94 IO16, 95 IO14, 96 IO11, 98 IO9, 99 IO8, 100 IO6
part B pins: 5 VCCIO (power), 13 GND (power), 20 VCCIO@1 (power), 28 GND@1 (power), 36 VCCIO@2 (power), 40 GND@2 (power), 41 VCC (power), 45 GND@3 (power), 53 VCCIO@3 (power), 61 GND@4 (power), 68 VCCIO@4 (power), 76 GND@5 (power), 84 VCCIO@5 (power), 88 GND@6 (power), 93 VCC@1 (power), 97 GND@7 (power)

## EPM7160-?100T
designator IC?, comment EPM7160E   MAX 7000 family
MPN: EPM7160STC100-10N; OC_FARNELL: 1549429; OC_NEWARK: 51R9804
footprint TQFP100
part A pins: 1 IO32, 2 IO30, 4 IO27, 5 IO25, 6 IO24, 7 IO22, 8 IO19, 9 IO17, 10 IO41, 12 IO43, 13 IO46, 14 IO48, 15 IO40, 16 IO38, 17 IO35, 19 IO33, 20 IO64, 21 IO62, 22 IO61, 23 IO59, 24 IO56, 25 IO54, 27 IO53, 28 IO51, 29 IO80, 30 IO78, 31 IO77, 32 IO75, 33 IO72, 35 IO70, 36 IO69, 37 IO67, 40 IO83, 41 IO85, 42 IO86, 44 IO88, 45 IO91, 46 IO93, 47 IO94, 48 IO96, 49 IO99, 50 IO101, 52 IO102, 53 IO104, 54 IO107, 55 IO109, 56 IO110, 57 IO112, 58 IO113, 60 IO115, 61 IO118, 62 IO120, 63 IO128, 64 IO126, 65 IO123, 67 IO121, 68 IO129, 69 IO131, 70 IO134, 71 IO136, 72 IO137, 73 IO139, 75 IO142, 76 IO144, 77 IO145, 78 IO147, 79 IO150, 80 IO152, 81 IO153, 83 IO155, 84 IO158, 85 IO160, 87 GCLK1, 88 OE1, 89 GCLR/, 90 OE2-GCLK2, 92 IO16, 93 IO14, 94 IO11, 96 IO9, 97 IO8, 98 IO6, 99 IO3, 100 IO1
part B pins: 3 VCCIO (power), 11 GND@2 (power), 18 VCCIO@1 (power), 26 GND@3 (power), 34 VCCIO@2 (power), 38 GND (power), 39 VCC (power), 43 GND@4 (power), 51 VCCIO@3 (power), 59 GND@5 (power), 66 VCCIO@4 (power), 74 GND@6 (power), 82 VCCIO@5 (power), 86 GND@1 (power), 91 VCC@1 (power), 95 GND@7 (power)

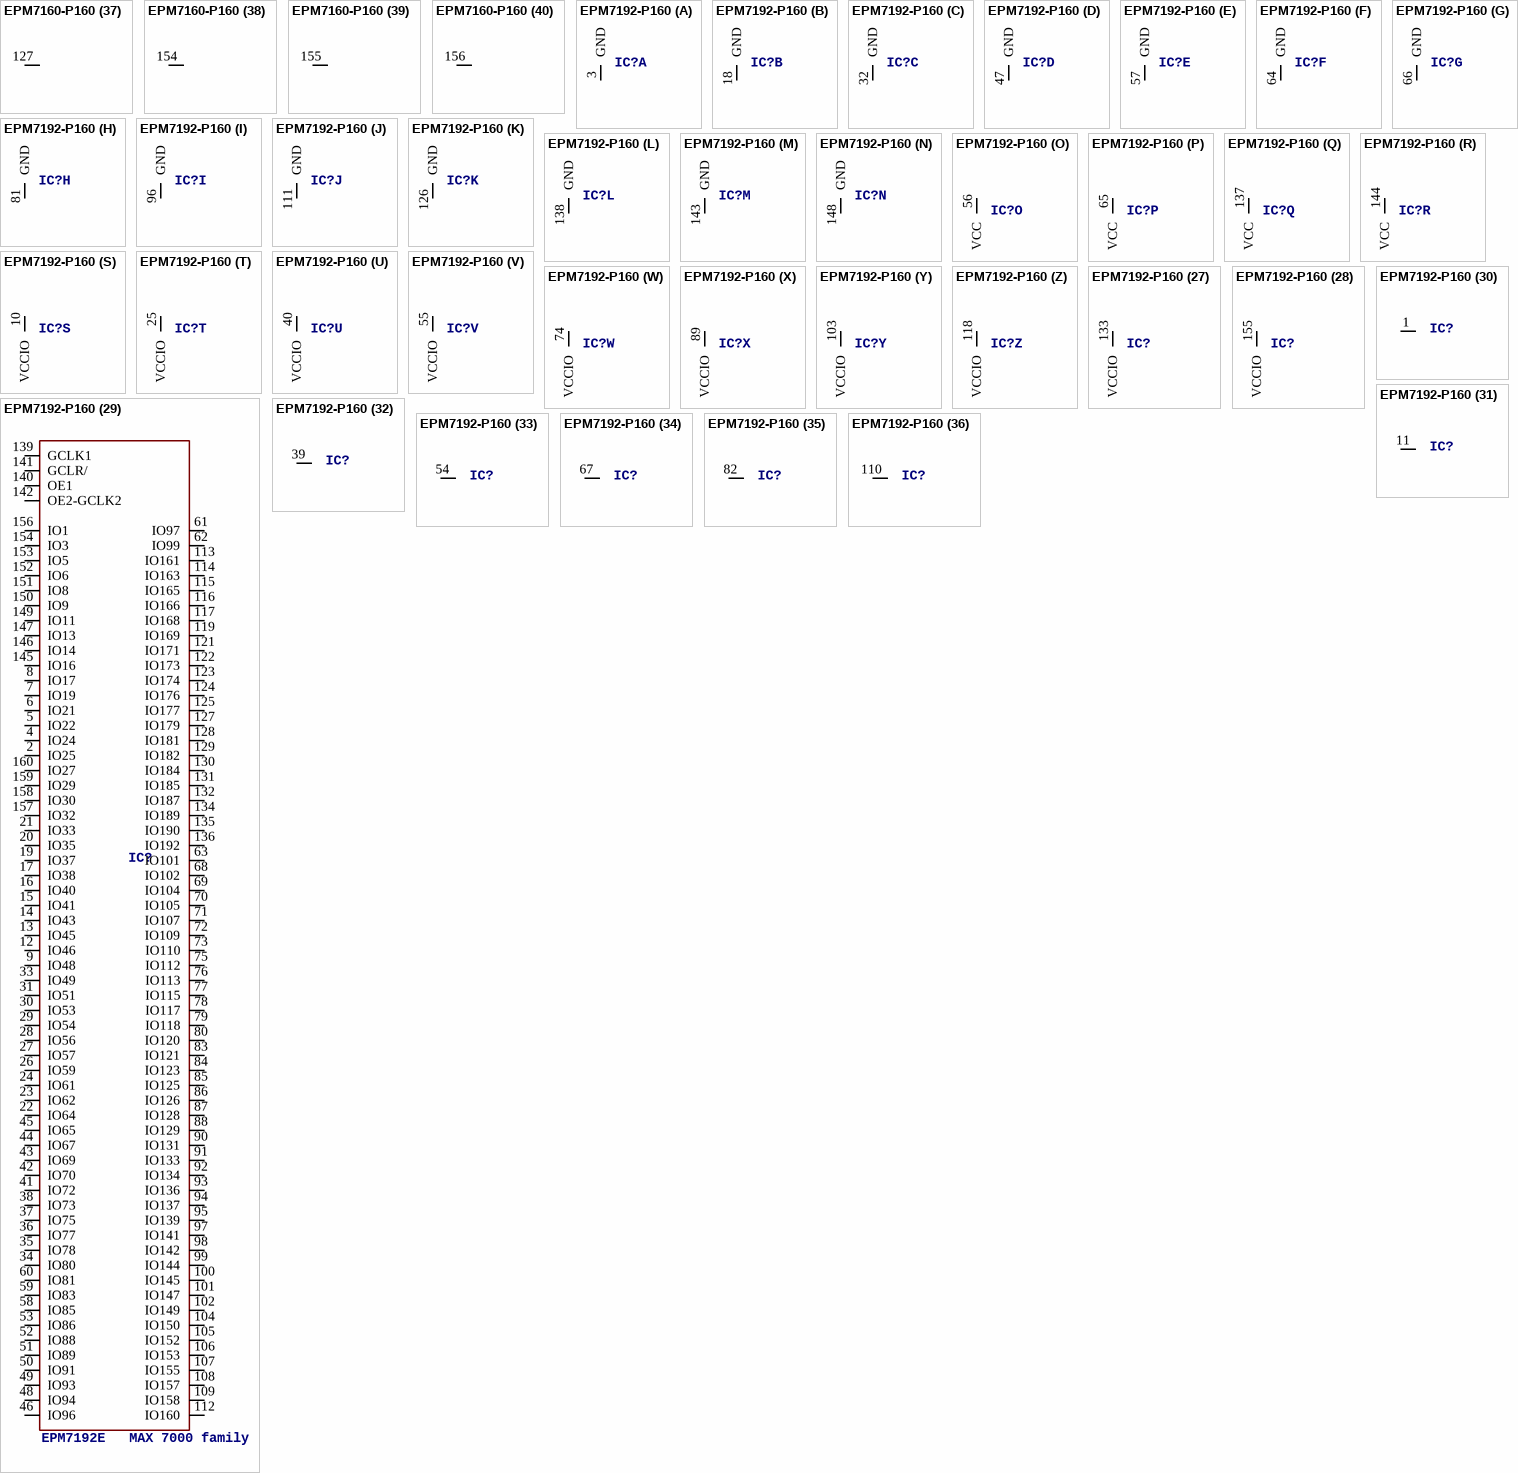
[diagram p46: symbols EPM7160-P160 to EPM7192-P160]